# Altium integrated library Xilinx Virtex-E.IntLib: 288 symbols (part 8 of 73)
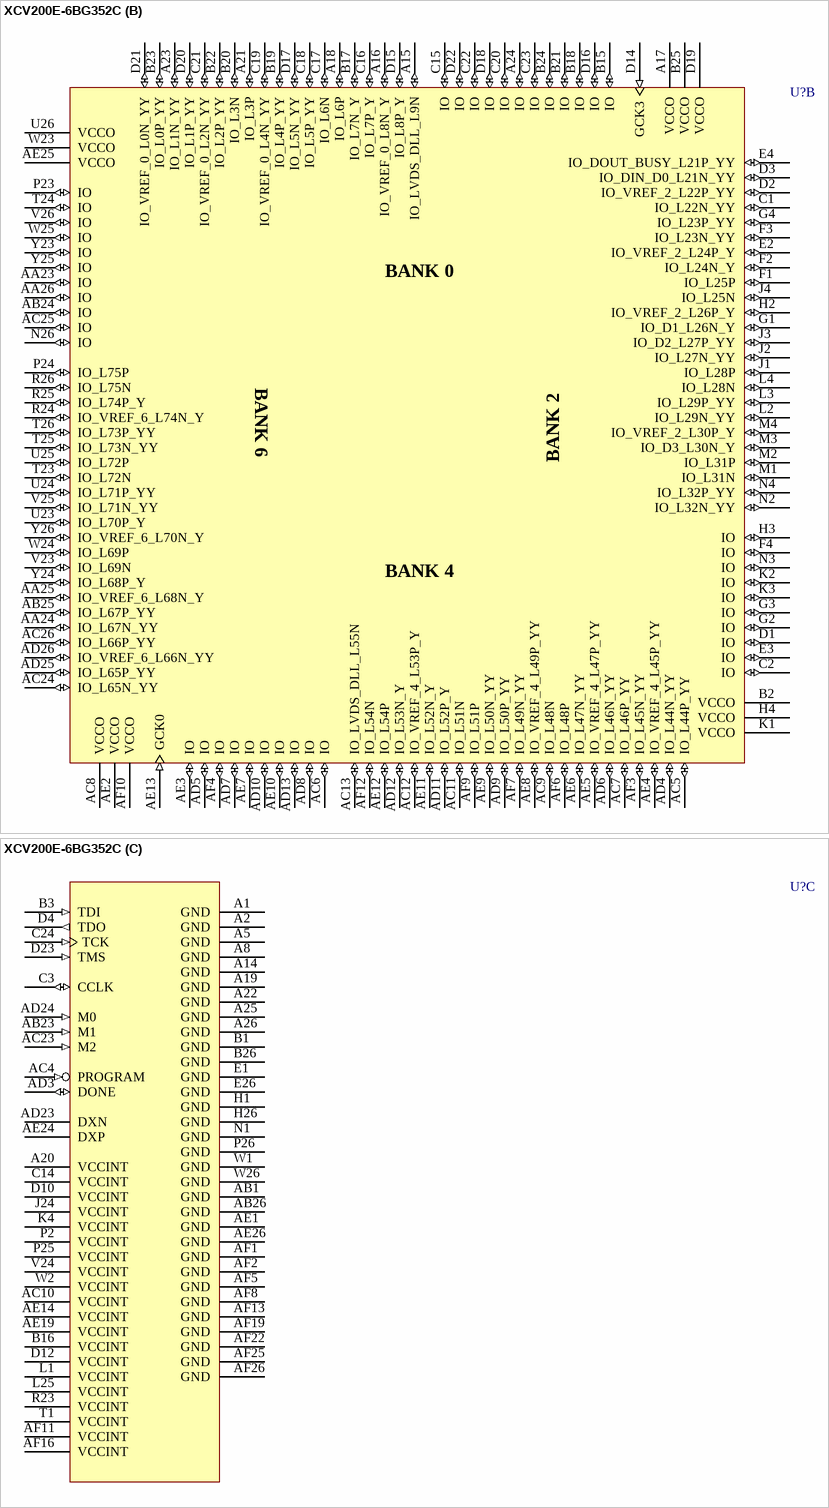
[diagram p403: symbol XCV200E-6BG352C]

## XCV200E-6BG352C
designator U?
Virtex-E 1.8V FPGA, 352-Ball BGA, Commercial Grade; PackageDocument: ver1.1, Apr-2001; Note: Solder pads are defined by the copper, i.e. non-soldermask defined (NSMD); Published: 19-Sep-2001; LatestRevisionDate: 17-Jul-2002; LatestRevisionNote: Re-released for DXP Platform.; DatasheetDocument: Mar-2003; PackageReference: BG352; Publisher: Altium Limited; Code_JEDEC: MO-192-BAR-2
footprint BG352 (352-Ball Metal Ball Grid Array (BG352))
3D model XCV200E-BG352 (352-Ball Metal Ball Grid Array (BG352))
signal-integrity model XCV200E_BG352 (Virtex-E)
part A pins: A3 IO (io), A4 IO_L18P_YY (io), A6 IO_L17N_YY (io), A7 IO_L16P_Y (io), A9 IO (io), A10 VCCO (power), A11 IO_L12N_Y (io), A12 IO_L10P (io), A13 IO_LVDS_DLL_L9P (io), AA1 IO (io), AA2 IO_L40P_Y (io), AA3 IO (io), AA4 IO_L42P_YY (io), AB2 IO_L41N_YY (io), AB3 IO (io), AB4 IO (io), AC1 IO_L41P_YY (io), AC2 IO_VREF_3_L42N_YY (io), AC3 IO_D7_L43P_YY (io), AC14 VCCO (power), AC15 IO_VREF_5_L56N_Y (io), AC16 IO_L58P (io), AC17 IO_L59N_YY (io), AC18 IO_VREF_5_L60N_YY (io), AC19 IO (io), AC20 VCCO (power), AC21 IO_L64P_YY (io), AC22 IO (io), AD1 IO (io), AD2 IO_INIT_L43N_YY (io), AD14 IO_LVDS_DLL_L55N (io), AD15 IO_L56P_Y (io), AD16 IO (io), AD17 IO_L59P_YY (io), AD18 IO_L60P_YY (io), AD19 IO (io), AD20 IO_VREF_5_L62N_YY (io), AD21 IO (io), AD22 IO (io), AE15 IO (io), AE16 IO_L57P_Y (io), AE17 IO_L57N_Y (io), AE18 IO (io), AE20 IO_L61N_Y (io), AE21 IO_L62P_YY (io), AE22 IO_L63N_YY (io), AE23 IO_VREF_5_L64N_YY (io), AF14 GCK1 (in), AF15 IO (io), AF17 VCCO (power), AF18 IO_L58N (io), AF20 IO_L61P_Y (io), AF21 IO (io), AF23 IO_L63P_YY (io), AF24 IO (io), B4 IO (io), B5 IO (io), B6 IO_VREF_1_L17P_YY (io), B7 IO (io), B8 IO_L15N_YY (io), B9 IO_L14N_YY (io), B10 IO (io), B11 IO_L12P_Y (io), B12 IO_L11N_Y (io), B13 IO (io), B14 GCK2 (in), C4 IO_CS_L20P_YY (io), C5 IO (io), C6 IO_L19N_YY (io), C7 IO_L18N_YY (io), C8 IO (io), C9 IO_VREF_1_L15P_YY (io), C10 IO_L14P_YY (io), C11 IO_L13N (io), C12 IO_VREF_1_L11P_Y (io), C13 IO_L10N (io), C25 IO (io), C26 IO (io), D5 IO_WRITE_L20N_YY (io), D6 IO_VREF_1_L19P_YY (io), D7 VCCO (power), D8 IO (io), D9 IO_L16N_Y (io), D11 IO_L13P (io), D13 VCCO (power), D24 IO (io), D25 IO_L86N_YY (io), D26 IO_VREF_7_L84P_Y (io), E23 IO (io), E24 IO_VREF_7_L86P_YY (io), E25 IO_L85N_YY (io), F23 IO (io), F24 IO_L85P_YY (io), F25 IO (io), F26 IO (io), G23 VCCO (power), G24 IO_L84N_Y (io), G25 IO_L83N_Y (io), G26 IO_VREF_7_L82P_Y (io), H23 IO (io), H24 IO_L83P_Y (io), H25 IO_L81P_YY (io), J23 IO_L82N_Y (io), J25 IO_L80P (io), J26 IO_L80N (io), K23 IO_L81N_YY (io), K24 IO (io), K25 IO_L79N_YY (io), K26 VCCO (power), L23 IO (io), L24 IO_L79P_YY (io), L26 IO_VREF_7_L78P_Y (io), M23 IO_L78N_Y (io), M24 IO_L77P (io), M25 IO_L77N (io), M26 IO (io), N23 VCCO (power), N24 IO_L76P_YY (io), N25 IO_L76N_YY (io), P1 IO (io), P3 IO (io), P4 VCCO (power), R1 IO_L33P (io), R2 IO_L33N (io), R3 IO_D4_L34P_Y (io), R4 IO_VREF_3_L34N_Y (io), T2 IO_L35P_YY (io), T3 IO (io), T4 IO_L36P (io), U1 VCCO (power), U2 IO_L35N_YY (io), U3 IO_L37P_YY (io), U4 IO_D5_L37N_YY (io), V1 IO_L36N (io), V2 IO (io), V3 IO_D6_L38P_Y (io), V4 IO_VREF_3_L38N_Y (io), W3 IO (io), W4 IO (io), Y1 IO_L39P_Y (io), Y2 IO_L39N_Y (io), Y3 IO_VREF_3_L40N_Y (io), Y4 VCCO (power)
part B pins: A15 IO_LVDS_DLL_L9N (io), A16 IO_VREF_0_L8N_Y (io), A17 VCCO (power), A18 IO_L6P (io), A21 IO_L3P (io), A23 IO_L1N_YY (io), A24 IO (io), AA23 IO (io), AA24 IO_L67N_YY (io), AA25 IO_VREF_6_L68N_Y (io), AA26 IO (io), AB24 IO (io), AB25 IO_L67P_YY (io), AC5 IO_L44P_YY (io), AC6 IO (io), AC7 IO_L46P_YY (io), AC8 VCCO (power), AC9 IO_L48N (io), AC11 IO_L51N (io), AC12 IO_VREF_4_L53P_Y (io), AC13 IO_LVDS_DLL_L55N (io), AC24 IO_L65N_YY (io), AC25 IO (io), AC26 IO_L66P_YY (io), AD4 IO_L44N_YY (io), AD5 IO (io), AD6 IO_L46N_YY (io), AD7 IO (io), AD8 IO (io), AD9 IO_L50P_YY (io), AD10 IO (io), AD11 IO_L52P_Y (io), AD12 IO_L53N_Y (io), AD13 IO (io), AD25 IO_L65P_YY (io), AD26 IO_VREF_6_L66N_YY (io), AE2 VCCO (power), AE3 IO (io), AE4 IO_VREF_4_L45P_YY (io), AE5 IO_VREF_4_L47P_YY (io), AE6 IO_L47N_YY (io), AE7 IO (io), AE8 IO_VREF_4_L49P_YY (io), AE9 IO_L50N_YY (io), AE10 IO (io), AE11 IO_L52N_Y (io), AE12 IO_L54P (io), AE13 GCK0 (in), AE25 VCCO (power), AF3 IO_L45N_YY (io), AF4 IO (io), AF6 IO_L48P (io), AF7 IO_L49N_YY (io), AF9 IO_L51P (io), AF10 VCCO (power), AF12 IO_L54N (io), B2 VCCO (power), B15 IO (io), B17 IO_L7N_Y (io), B18 IO (io), B19 IO_L4P_YY (io), B20 IO_L3N (io), B21 IO (io), B22 IO_L2P_YY (io), B23 IO_L0P_YY (io), B24 IO (io), B25 VCCO (power), C1 IO_L22N_YY (io), C2 IO (io), C15 IO (io), C16 IO_L7P_Y (io), C17 IO_L6N (io), C18 IO_L5P_YY (io), C19 IO_VREF_0_L4N_YY (io), C20 IO (io), C21 IO_VREF_0_L2N_YY (io), C22 IO (io), C23 IO (io), D1 IO (io), D2 IO_VREF_2_L22P_YY (io), D3 IO_DIN_D0_L21N_YY (io), D14 GCK3 (in), D15 IO_L8P_Y (io), D16 IO (io), D17 IO_L5N_YY (io), D18 IO (io), D19 VCCO (power), D20 IO_L1P_YY (io), D21 IO_VREF_0_L0N_YY (io), D22 IO (io), E2 IO_VREF_2_L24P_Y (io), E3 IO (io), E4 IO_DOUT_BUSY_L21P_YY (io), F1 IO_L25P (io), F2 IO_L24N_Y (io), F3 IO_L23N_YY (io), F4 IO (io), G1 IO_D1_L26N_Y (io), G2 IO (io), G3 IO (io), G4 IO_L23P_YY (io), H2 IO_VREF_2_L26P_Y (io), H3 IO (io), H4 VCCO (power), J1 IO_L28P (io), J2 IO_L27N_YY (io), J3 IO_D2_L27P_YY (io), J4 IO_L25N (io), K1 VCCO (power), K2 IO (io), K3 IO (io), L2 IO_L29N_YY (io), L3 IO_L29P_YY (io), L4 IO_L28N (io), M1 IO_L31N (io), M2 IO_L31P (io), M3 IO_D3_L30N_Y (io), M4 IO_VREF_2_L30P_Y (io), N2 IO_L32N_YY (io), N3 IO (io), N4 IO_L32P_YY (io), N26 IO (io), P23 IO (io), P24 IO_L75P (io), R24 IO_VREF_6_L74N_Y (io), R25 IO_L74P_Y (io), R26 IO_L75N (io), T23 IO_L72N (io), T24 IO (io), T25 IO_L73N_YY (io), T26 IO_L73P_YY (io), U23 IO_L70P_Y (io), U24 IO_L71P_YY (io), U25 IO_L72P (io), U26 VCCO (power), V23 IO_L69N (io), V25 IO_L71N_YY (io), V26 IO (io), W23 VCCO (power), W24 IO_L69P (io), W25 IO (io), Y23 IO (io), Y24 IO_L68P_Y (io), Y25 IO (io), Y26 IO_VREF_6_L70N_Y (io)
part C pins: A1 GND (power), A2 GND (power), A5 GND (power), A8 GND (power), A14 GND (power), A19 GND (power), A20 VCCINT (power), A22 GND (power), A25 GND (power), A26 GND (power), AB1 GND (power), AB23 M1 (in), AB26 GND (power), AC4 PROGRAM (in), AC10 VCCINT (power), AC23 M2 (in), AD3 DONE (io), AD23 DXN, AD24 M0 (in), AE1 GND (power), AE14 VCCINT (power), AE19 VCCINT (power), AE24 DXP, AE26 GND (power), AF1 GND (power), AF2 GND (power), AF5 GND (power), AF8 GND (power), AF11 VCCINT (power), AF13 GND (power), AF16 VCCINT (power), AF19 GND (power), AF22 GND (power), AF25 GND (power), AF26 GND (power), B1 GND (power), B3 TDI (in), B16 VCCINT (power), B26 GND (power), C3 CCLK (io), C14 VCCINT (power), C24 TCK (in), D4 TDO (out), D10 VCCINT (power), D12 VCCINT (power), D23 TMS (in), E1 GND (power), E26 GND (power), H1 GND (power), H26 GND (power), J24 VCCINT (power), K4 VCCINT (power), L1 VCCINT (power), L25 VCCINT (power), N1 GND (power), P2 VCCINT (power), P25 VCCINT (power), P26 GND (power), R23 VCCINT (power), T1 VCCINT (power), V24 VCCINT (power), W1 GND (power), W2 VCCINT (power), W26 GND (power)
part A text: BANK 1; BANK 7; BANK 3; BANK 5
part B text: BANK 0; BANK 6; BANK 2; BANK 4

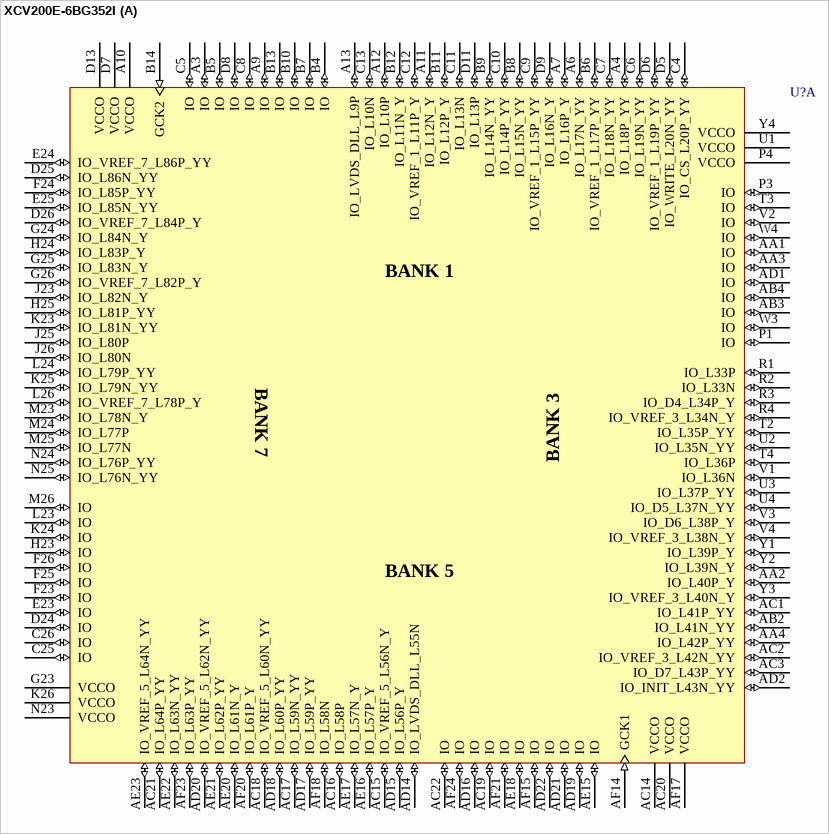
[diagram p35: symbol XCV200E-6BG352I]

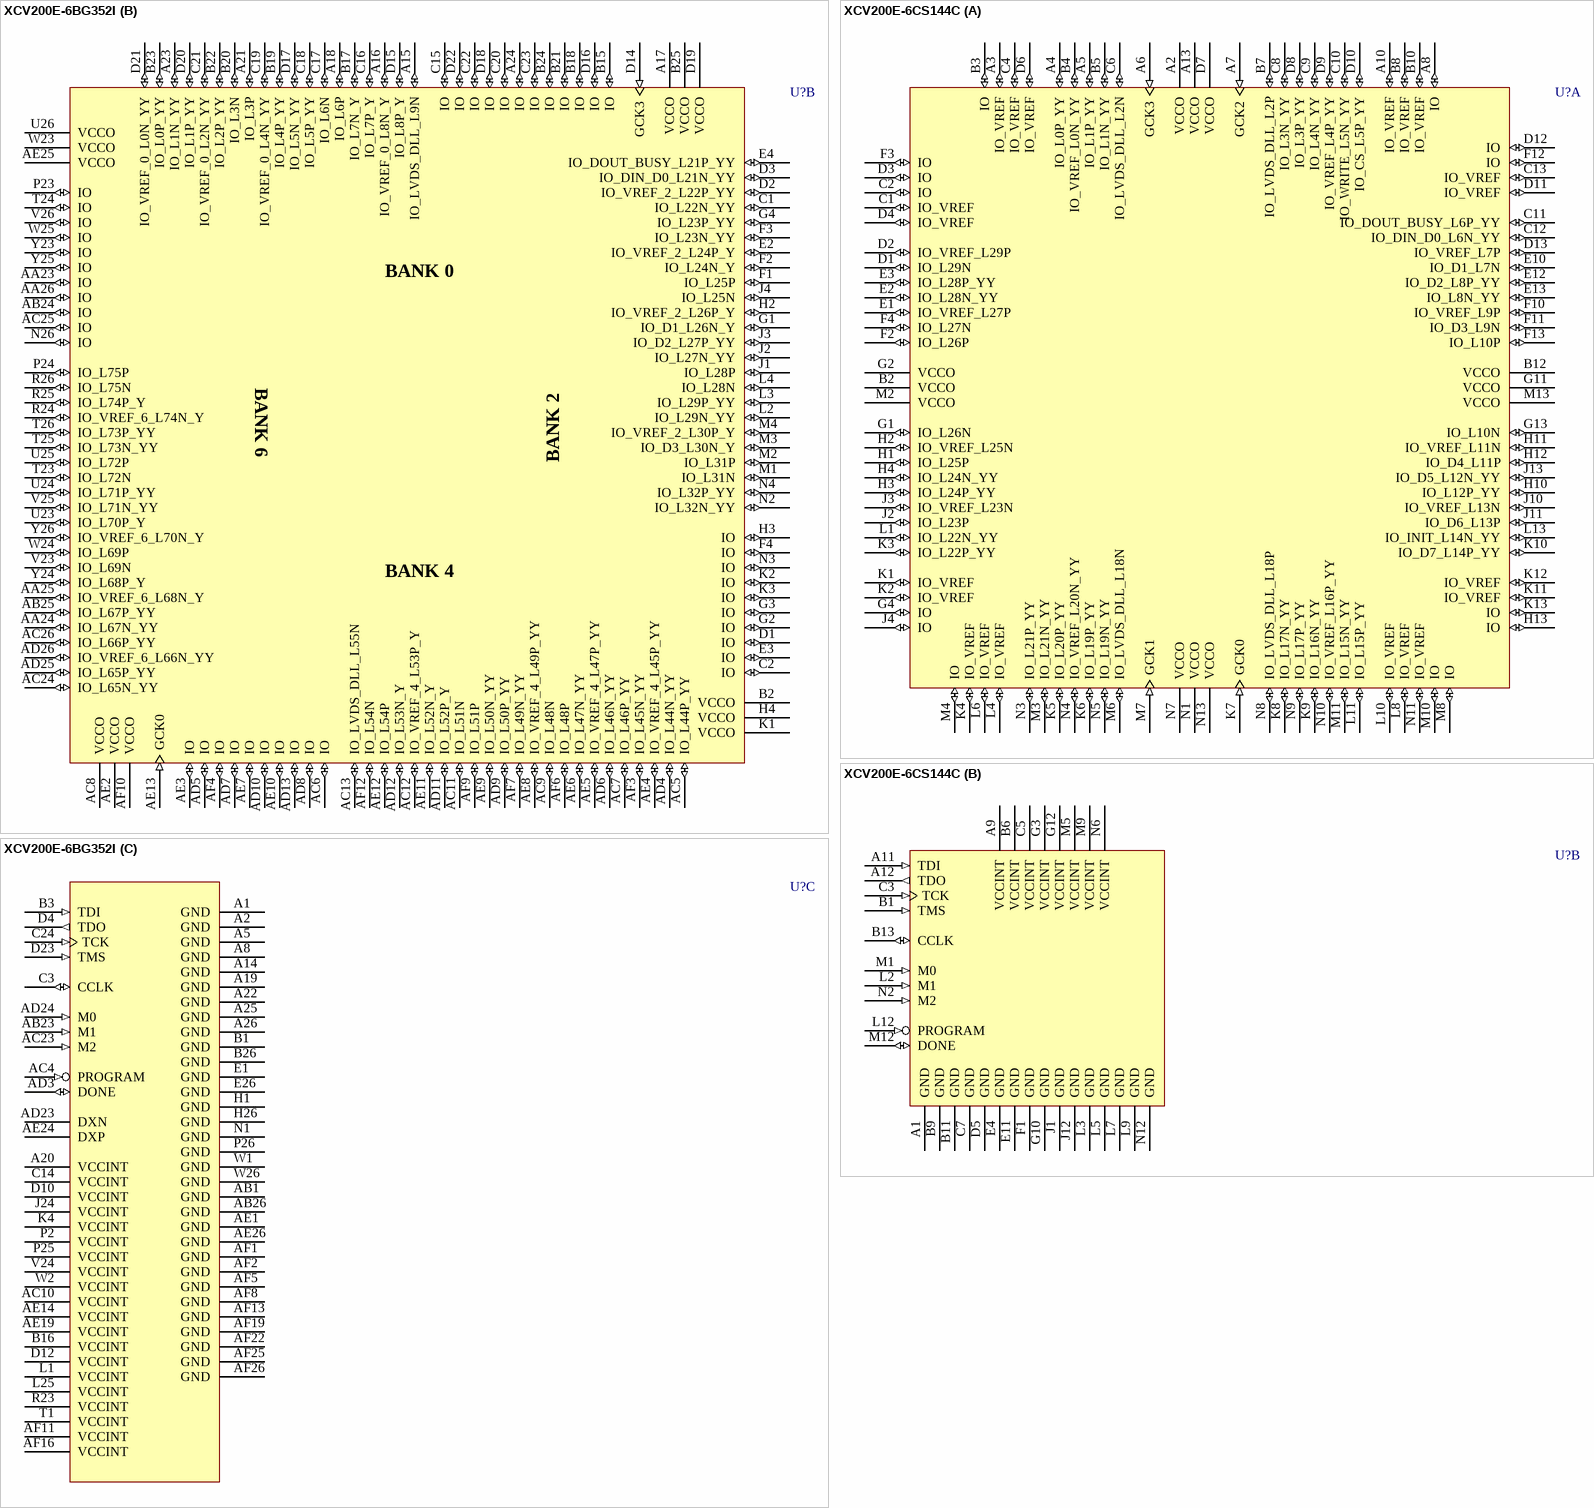
[diagram p36: symbols XCV200E-6BG352I to XCV200E-6CS144C]

## XCV200E-6BG352I
designator U?
Virtex-E 1.8V FPGA, 352-Ball BGA, Industrial Grade; PackageDocument: ver1.1, Apr-2001; Note: Solder pads are defined by the copper, i.e. non-soldermask defined (NSMD); Published: 19-Sep-2001; LatestRevisionDate: 17-Jul-2002; LatestRevisionNote: Re-released for DXP Platform.; DatasheetDocument: Mar-2003; PackageReference: BG352; Publisher: Altium Limited; Code_JEDEC: MO-192-BAR-2
footprint BG352 (352-Ball Metal Ball Grid Array (BG352))
3D model XCV200E-BG352 (352-Ball Metal Ball Grid Array (BG352))
signal-integrity model XCV200E_BG352 (Virtex-E)
part A pins: A3 IO (io), A4 IO_L18P_YY (io), A6 IO_L17N_YY (io), A7 IO_L16P_Y (io), A9 IO (io), A10 VCCO (power), A11 IO_L12N_Y (io), A12 IO_L10P (io), A13 IO_LVDS_DLL_L9P (io), AA1 IO (io), AA2 IO_L40P_Y (io), AA3 IO (io), AA4 IO_L42P_YY (io), AB2 IO_L41N_YY (io), AB3 IO (io), AB4 IO (io), AC1 IO_L41P_YY (io), AC2 IO_VREF_3_L42N_YY (io), AC3 IO_D7_L43P_YY (io), AC14 VCCO (power), AC15 IO_VREF_5_L56N_Y (io), AC16 IO_L58P (io), AC17 IO_L59N_YY (io), AC18 IO_VREF_5_L60N_YY (io), AC19 IO (io), AC20 VCCO (power), AC21 IO_L64P_YY (io), AC22 IO (io), AD1 IO (io), AD2 IO_INIT_L43N_YY (io), AD14 IO_LVDS_DLL_L55N (io), AD15 IO_L56P_Y (io), AD16 IO (io), AD17 IO_L59P_YY (io), AD18 IO_L60P_YY (io), AD19 IO (io), AD20 IO_VREF_5_L62N_YY (io), AD21 IO (io), AD22 IO (io), AE15 IO (io), AE16 IO_L57P_Y (io), AE17 IO_L57N_Y (io), AE18 IO (io), AE20 IO_L61N_Y (io), AE21 IO_L62P_YY (io), AE22 IO_L63N_YY (io), AE23 IO_VREF_5_L64N_YY (io), AF14 GCK1 (in), AF15 IO (io), AF17 VCCO (power), AF18 IO_L58N (io), AF20 IO_L61P_Y (io), AF21 IO (io), AF23 IO_L63P_YY (io), AF24 IO (io), B4 IO (io), B5 IO (io), B6 IO_VREF_1_L17P_YY (io), B7 IO (io), B8 IO_L15N_YY (io), B9 IO_L14N_YY (io), B10 IO (io), B11 IO_L12P_Y (io), B12 IO_L11N_Y (io), B13 IO (io), B14 GCK2 (in), C4 IO_CS_L20P_YY (io), C5 IO (io), C6 IO_L19N_YY (io), C7 IO_L18N_YY (io), C8 IO (io), C9 IO_VREF_1_L15P_YY (io), C10 IO_L14P_YY (io), C11 IO_L13N (io), C12 IO_VREF_1_L11P_Y (io), C13 IO_L10N (io), C25 IO (io), C26 IO (io), D5 IO_WRITE_L20N_YY (io), D6 IO_VREF_1_L19P_YY (io), D7 VCCO (power), D8 IO (io), D9 IO_L16N_Y (io), D11 IO_L13P (io), D13 VCCO (power), D24 IO (io), D25 IO_L86N_YY (io), D26 IO_VREF_7_L84P_Y (io), E23 IO (io), E24 IO_VREF_7_L86P_YY (io), E25 IO_L85N_YY (io), F23 IO (io), F24 IO_L85P_YY (io), F25 IO (io), F26 IO (io), G23 VCCO (power), G24 IO_L84N_Y (io), G25 IO_L83N_Y (io), G26 IO_VREF_7_L82P_Y (io), H23 IO (io), H24 IO_L83P_Y (io), H25 IO_L81P_YY (io), J23 IO_L82N_Y (io), J25 IO_L80P (io), J26 IO_L80N (io), K23 IO_L81N_YY (io), K24 IO (io), K25 IO_L79N_YY (io), K26 VCCO (power), L23 IO (io), L24 IO_L79P_YY (io), L26 IO_VREF_7_L78P_Y (io), M23 IO_L78N_Y (io), M24 IO_L77P (io), M25 IO_L77N (io), M26 IO (io), N23 VCCO (power), N24 IO_L76P_YY (io), N25 IO_L76N_YY (io), P1 IO (io), P3 IO (io), P4 VCCO (power), R1 IO_L33P (io), R2 IO_L33N (io), R3 IO_D4_L34P_Y (io), R4 IO_VREF_3_L34N_Y (io), T2 IO_L35P_YY (io), T3 IO (io), T4 IO_L36P (io), U1 VCCO (power), U2 IO_L35N_YY (io), U3 IO_L37P_YY (io), U4 IO_D5_L37N_YY (io), V1 IO_L36N (io), V2 IO (io), V3 IO_D6_L38P_Y (io), V4 IO_VREF_3_L38N_Y (io), W3 IO (io), W4 IO (io), Y1 IO_L39P_Y (io), Y2 IO_L39N_Y (io), Y3 IO_VREF_3_L40N_Y (io), Y4 VCCO (power)
part B pins: A15 IO_LVDS_DLL_L9N (io), A16 IO_VREF_0_L8N_Y (io), A17 VCCO (power), A18 IO_L6P (io), A21 IO_L3P (io), A23 IO_L1N_YY (io), A24 IO (io), AA23 IO (io), AA24 IO_L67N_YY (io), AA25 IO_VREF_6_L68N_Y (io), AA26 IO (io), AB24 IO (io), AB25 IO_L67P_YY (io), AC5 IO_L44P_YY (io), AC6 IO (io), AC7 IO_L46P_YY (io), AC8 VCCO (power), AC9 IO_L48N (io), AC11 IO_L51N (io), AC12 IO_VREF_4_L53P_Y (io), AC13 IO_LVDS_DLL_L55N (io), AC24 IO_L65N_YY (io), AC25 IO (io), AC26 IO_L66P_YY (io), AD4 IO_L44N_YY (io), AD5 IO (io), AD6 IO_L46N_YY (io), AD7 IO (io), AD8 IO (io), AD9 IO_L50P_YY (io), AD10 IO (io), AD11 IO_L52P_Y (io), AD12 IO_L53N_Y (io), AD13 IO (io), AD25 IO_L65P_YY (io), AD26 IO_VREF_6_L66N_YY (io), AE2 VCCO (power), AE3 IO (io), AE4 IO_VREF_4_L45P_YY (io), AE5 IO_VREF_4_L47P_YY (io), AE6 IO_L47N_YY (io), AE7 IO (io), AE8 IO_VREF_4_L49P_YY (io), AE9 IO_L50N_YY (io), AE10 IO (io), AE11 IO_L52N_Y (io), AE12 IO_L54P (io), AE13 GCK0 (in), AE25 VCCO (power), AF3 IO_L45N_YY (io), AF4 IO (io), AF6 IO_L48P (io), AF7 IO_L49N_YY (io), AF9 IO_L51P (io), AF10 VCCO (power), AF12 IO_L54N (io), B2 VCCO (power), B15 IO (io), B17 IO_L7N_Y (io), B18 IO (io), B19 IO_L4P_YY (io), B20 IO_L3N (io), B21 IO (io), B22 IO_L2P_YY (io), B23 IO_L0P_YY (io), B24 IO (io), B25 VCCO (power), C1 IO_L22N_YY (io), C2 IO (io), C15 IO (io), C16 IO_L7P_Y (io), C17 IO_L6N (io), C18 IO_L5P_YY (io), C19 IO_VREF_0_L4N_YY (io), C20 IO (io), C21 IO_VREF_0_L2N_YY (io), C22 IO (io), C23 IO (io), D1 IO (io), D2 IO_VREF_2_L22P_YY (io), D3 IO_DIN_D0_L21N_YY (io), D14 GCK3 (in), D15 IO_L8P_Y (io), D16 IO (io), D17 IO_L5N_YY (io), D18 IO (io), D19 VCCO (power), D20 IO_L1P_YY (io), D21 IO_VREF_0_L0N_YY (io), D22 IO (io), E2 IO_VREF_2_L24P_Y (io), E3 IO (io), E4 IO_DOUT_BUSY_L21P_YY (io), F1 IO_L25P (io), F2 IO_L24N_Y (io), F3 IO_L23N_YY (io), F4 IO (io), G1 IO_D1_L26N_Y (io), G2 IO (io), G3 IO (io), G4 IO_L23P_YY (io), H2 IO_VREF_2_L26P_Y (io), H3 IO (io), H4 VCCO (power), J1 IO_L28P (io), J2 IO_L27N_YY (io), J3 IO_D2_L27P_YY (io), J4 IO_L25N (io), K1 VCCO (power), K2 IO (io), K3 IO (io), L2 IO_L29N_YY (io), L3 IO_L29P_YY (io), L4 IO_L28N (io), M1 IO_L31N (io), M2 IO_L31P (io), M3 IO_D3_L30N_Y (io), M4 IO_VREF_2_L30P_Y (io), N2 IO_L32N_YY (io), N3 IO (io), N4 IO_L32P_YY (io), N26 IO (io), P23 IO (io), P24 IO_L75P (io), R24 IO_VREF_6_L74N_Y (io), R25 IO_L74P_Y (io), R26 IO_L75N (io), T23 IO_L72N (io), T24 IO (io), T25 IO_L73N_YY (io), T26 IO_L73P_YY (io), U23 IO_L70P_Y (io), U24 IO_L71P_YY (io), U25 IO_L72P (io), U26 VCCO (power), V23 IO_L69N (io), V25 IO_L71N_YY (io), V26 IO (io), W23 VCCO (power), W24 IO_L69P (io), W25 IO (io), Y23 IO (io), Y24 IO_L68P_Y (io), Y25 IO (io), Y26 IO_VREF_6_L70N_Y (io)
part C pins: A1 GND (power), A2 GND (power), A5 GND (power), A8 GND (power), A14 GND (power), A19 GND (power), A20 VCCINT (power), A22 GND (power), A25 GND (power), A26 GND (power), AB1 GND (power), AB23 M1 (in), AB26 GND (power), AC4 PROGRAM (in), AC10 VCCINT (power), AC23 M2 (in), AD3 DONE (io), AD23 DXN, AD24 M0 (in), AE1 GND (power), AE14 VCCINT (power), AE19 VCCINT (power), AE24 DXP, AE26 GND (power), AF1 GND (power), AF2 GND (power), AF5 GND (power), AF8 GND (power), AF11 VCCINT (power), AF13 GND (power), AF16 VCCINT (power), AF19 GND (power), AF22 GND (power), AF25 GND (power), AF26 GND (power), B1 GND (power), B3 TDI (in), B16 VCCINT (power), B26 GND (power), C3 CCLK (io), C14 VCCINT (power), C24 TCK (in), D4 TDO (out), D10 VCCINT (power), D12 VCCINT (power), D23 TMS (in), E1 GND (power), E26 GND (power), H1 GND (power), H26 GND (power), J24 VCCINT (power), K4 VCCINT (power), L1 VCCINT (power), L25 VCCINT (power), N1 GND (power), P2 VCCINT (power), P25 VCCINT (power), P26 GND (power), R23 VCCINT (power), T1 VCCINT (power), V24 VCCINT (power), W1 GND (power), W2 VCCINT (power), W26 GND (power)
part A text: BANK 1; BANK 7; BANK 3; BANK 5
part B text: BANK 0; BANK 6; BANK 2; BANK 4

## XCV200E-6CS144C
designator U?
Virtex-E 1.8V FPGA, 144-Ball CSBGA, Commercial Grade; PackageDocument: ver1.0, Jun-2000; Note: Solder pads are defined by the copper, i.e. non-soldermask defined (NSMD); Published: 19-Sep-2001; LatestRevisionDate: 17-Sep-2003; LatestRevisionNote: PCB Footprint dimensions updated; DatasheetDocument: Mar-2003; PackageReference: CS144; Publisher: Altium Limited
footprint CS144 (144-Ball Chip Scale Ball Grid Array (CS144))
3D model XCV200E-CS144 (144-Ball Chip Scale Ball Grid Array (CS144))
signal-integrity model XCV200E_CS144 (Virtex-E)
part A pins: A2 VCCO (power), A3 IO_VREF (io), A4 IO_L0P_YY (io), A5 IO_L1P_YY (io), A6 GCK3 (in), A7 GCK2 (in), A8 IO (io), A10 IO_VREF (io), A13 VCCO (power), B2 VCCO (power), B3 IO (io), B4 IO_VREF_L0N_YY (io), B5 IO_L1N_YY (io), B7 IO_LVDS_DLL_L2P (io), B8 IO_VREF (io), B10 IO_VREF (io), B12 VCCO (power), C1 IO_VREF (io), C2 IO (io), C4 IO_VREF (io), C6 IO_LVDS_DLL_L2N (io), C8 IO_L3N_YY (io), C9 IO_L4N_YY (io), C10 IO_WRITE_L5N_YY (io), C11 IO_DOUT_BUSY_L6P_YY (io), C12 IO_DIN_D0_L6N_YY (io), C13 IO_VREF (io), D1 IO_L29N (io), D2 IO_VREF_L29P (io), D3 IO (io), D4 IO_VREF (io), D6 IO_VREF (io), D7 VCCO (power), D8 IO_L3P_YY (io), D9 IO_VREF_L4P_YY (io), D10 IO_CS_L5P_YY (io), D11 IO_VREF (io), D12 IO (io), D13 IO_VREF_L7P (io), E1 IO_VREF_L27P (io), E2 IO_L28N_YY (io), E3 IO_L28P_YY (io), E10 IO_D1_L7N (io), E12 IO_D2_L8P_YY (io), E13 IO_L8N_YY (io), F2 IO_L26P (io), F3 IO (io), F4 IO_L27N (io), F10 IO_VREF_L9P (io), F11 IO_D3_L9N (io), F12 IO (io), F13 IO_L10P (io), G1 IO_L26N (io), G2 VCCO (power), G4 IO (io), G11 VCCO (power), G13 IO_L10N (io), H1 IO_L25P (io), H2 IO_VREF_L25N (io), H3 IO_L24P_YY (io), H4 IO_L24N_YY (io), H10 IO_L12P_YY (io), H11 IO_VREF_L11N (io), H12 IO_D4_L11P (io), H13 IO (io), J2 IO_L23P (io), J3 IO_VREF_L23N (io), J4 IO (io), J10 IO_VREF_L13N (io), J11 IO_D6_L13P (io), J13 IO_D5_L12N_YY (io), K1 IO_VREF (io), K2 IO_VREF (io), K3 IO_L22P_YY (io), K4 IO_VREF (io), K5 IO_L20P_YY (io), K6 IO_L19P_YY (io), K7 GCK0 (in), K8 IO_L17N_YY (io), K9 IO_L16N_YY (io), K10 IO_D7_L14P_YY (io), K11 IO_VREF (io), K12 IO_VREF (io), K13 IO (io), L1 IO_L22N_YY (io), L4 IO_VREF (io), L6 IO_VREF (io), L8 IO_VREF (io), L10 IO_VREF (io), L11 IO_L15P_YY (io), L13 IO_INIT_L14N_YY (io), M2 VCCO (power), M3 IO_L21N_YY (io), M4 IO (io), M6 IO_LVDS_DLL_L18N (io), M7 GCK1 (in), M8 IO (io), M10 IO (io), M11 IO_L15N_YY (io), M13 VCCO (power), N1 VCCO (power), N3 IO_L21P_YY (io), N4 IO_VREF_L20N_YY (io), N5 IO_L19N_YY (io), N7 VCCO (power), N8 IO_LVDS_DLL_L18P (io), N9 IO_L17P_YY (io), N10 IO_VREF_L16P_YY (io), N11 IO_VREF (io), N13 VCCO (power)
part B pins: A1 GND (power), A9 VCCINT (power), A11 TDI (in), A12 TDO (out), B1 TMS (in), B6 VCCINT (power), B9 GND (power), B11 GND (power), B13 CCLK (io), C3 TCK (in), C5 VCCINT (power), C7 GND (power), D5 GND (power), E4 GND (power), E11 GND (power), F1 GND (power), G3 VCCINT (power), G10 GND (power), G12 VCCINT (power), J1 GND (power), J12 GND (power), L2 M1 (in), L3 GND (power), L5 GND (power), L7 GND (power), L9 GND (power), L12 PROGRAM (in), M1 M0 (in), M5 VCCINT (power), M9 VCCINT (power), M12 DONE (io), N2 M2 (in), N6 VCCINT (power), N12 GND (power)

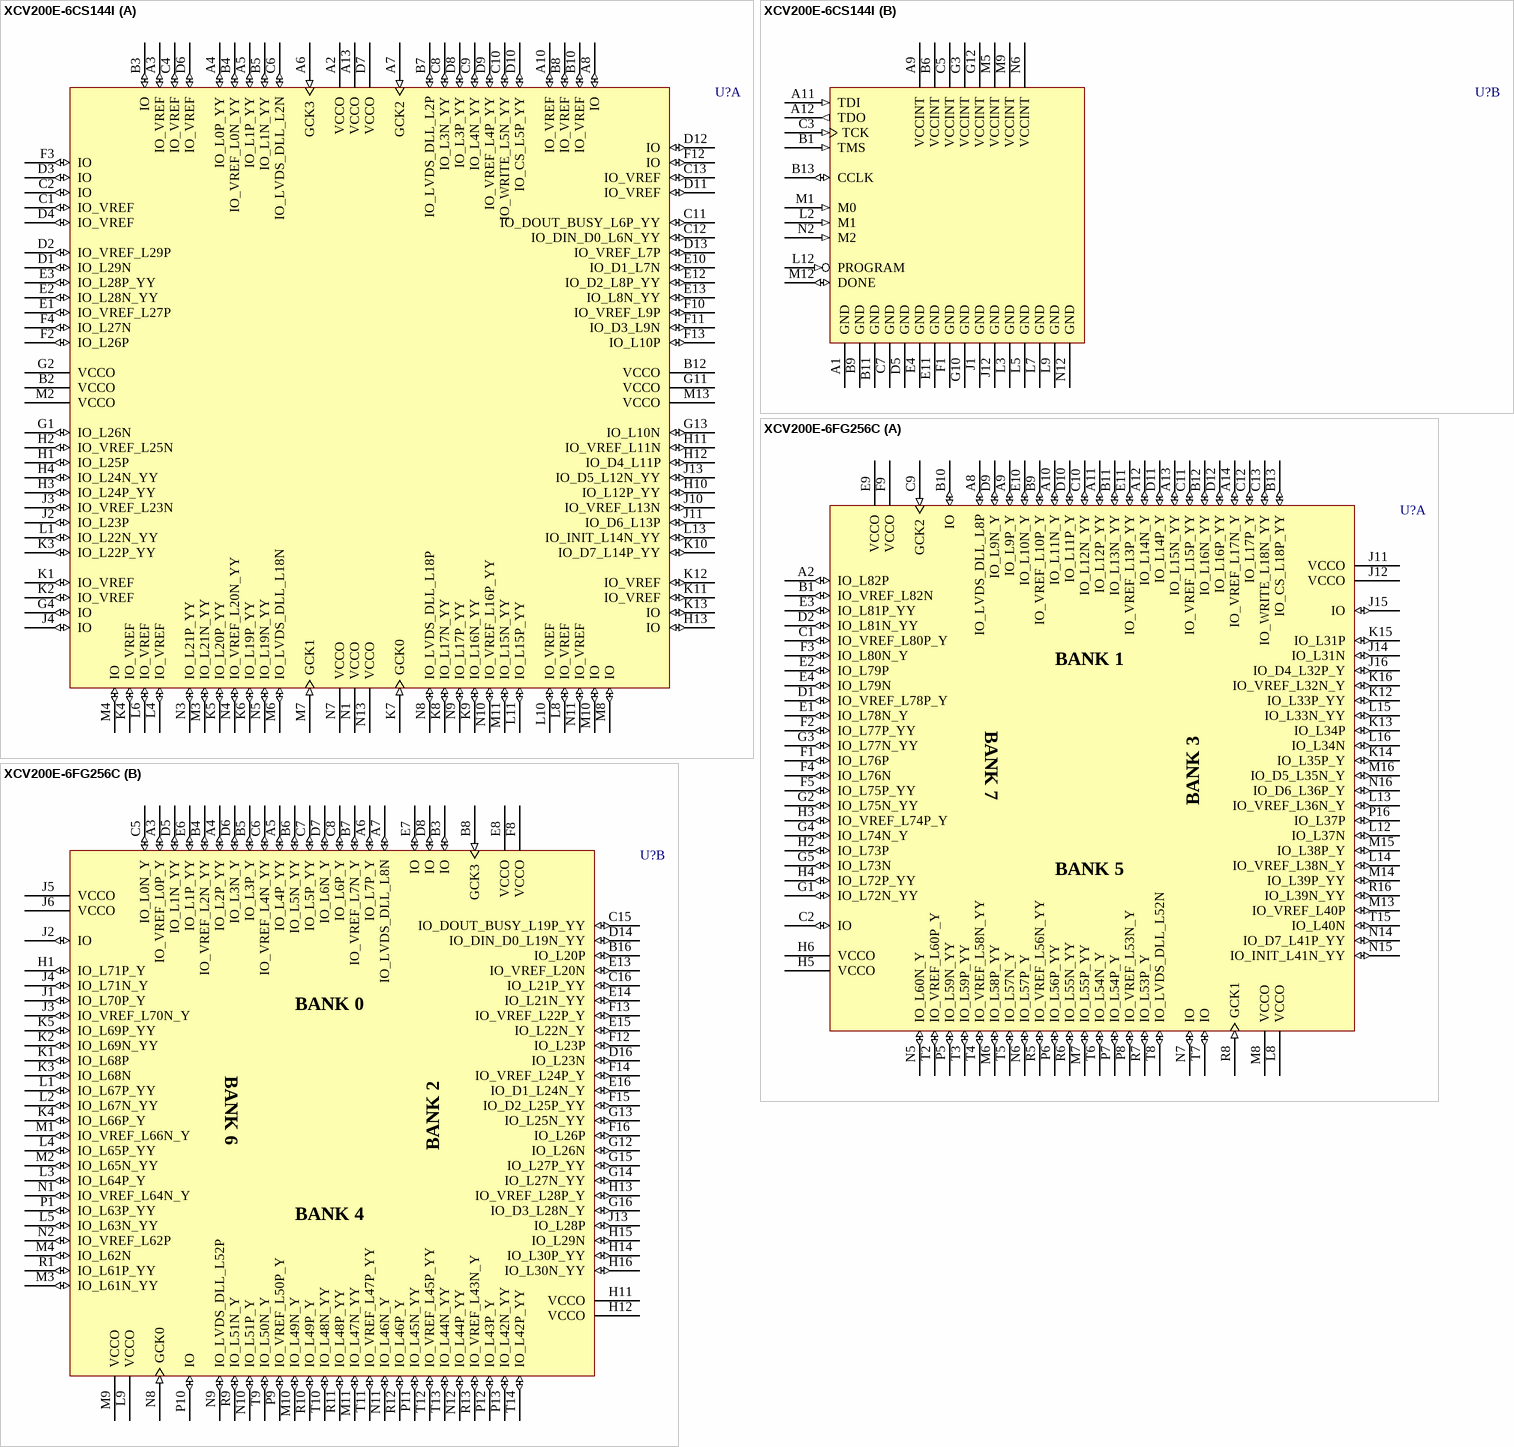
[diagram p37: symbols XCV200E-6CS144I to XCV200E-6FG256C]

## XCV200E-6CS144I
designator U?
Virtex-E 1.8V FPGA, 144-Ball CSBGA, Industrial Grade; PackageDocument: ver1.0, Jun-2000; Note: Solder pads are defined by the copper, i.e. non-soldermask defined (NSMD); Published: 19-Sep-2001; LatestRevisionDate: 17-Sep-2003; LatestRevisionNote: PCB Footprint dimensions updated; DatasheetDocument: Mar-2003; PackageReference: CS144; Publisher: Altium Limited
footprint CS144 (144-Ball Chip Scale Ball Grid Array (CS144))
3D model XCV200E-CS144 (144-Ball Chip Scale Ball Grid Array (CS144))
signal-integrity model XCV200E_CS144 (Virtex-E)
part A pins: A2 VCCO (power), A3 IO_VREF (io), A4 IO_L0P_YY (io), A5 IO_L1P_YY (io), A6 GCK3 (in), A7 GCK2 (in), A8 IO (io), A10 IO_VREF (io), A13 VCCO (power), B2 VCCO (power), B3 IO (io), B4 IO_VREF_L0N_YY (io), B5 IO_L1N_YY (io), B7 IO_LVDS_DLL_L2P (io), B8 IO_VREF (io), B10 IO_VREF (io), B12 VCCO (power), C1 IO_VREF (io), C2 IO (io), C4 IO_VREF (io), C6 IO_LVDS_DLL_L2N (io), C8 IO_L3N_YY (io), C9 IO_L4N_YY (io), C10 IO_WRITE_L5N_YY (io), C11 IO_DOUT_BUSY_L6P_YY (io), C12 IO_DIN_D0_L6N_YY (io), C13 IO_VREF (io), D1 IO_L29N (io), D2 IO_VREF_L29P (io), D3 IO (io), D4 IO_VREF (io), D6 IO_VREF (io), D7 VCCO (power), D8 IO_L3P_YY (io), D9 IO_VREF_L4P_YY (io), D10 IO_CS_L5P_YY (io), D11 IO_VREF (io), D12 IO (io), D13 IO_VREF_L7P (io), E1 IO_VREF_L27P (io), E2 IO_L28N_YY (io), E3 IO_L28P_YY (io), E10 IO_D1_L7N (io), E12 IO_D2_L8P_YY (io), E13 IO_L8N_YY (io), F2 IO_L26P (io), F3 IO (io), F4 IO_L27N (io), F10 IO_VREF_L9P (io), F11 IO_D3_L9N (io), F12 IO (io), F13 IO_L10P (io), G1 IO_L26N (io), G2 VCCO (power), G4 IO (io), G11 VCCO (power), G13 IO_L10N (io), H1 IO_L25P (io), H2 IO_VREF_L25N (io), H3 IO_L24P_YY (io), H4 IO_L24N_YY (io), H10 IO_L12P_YY (io), H11 IO_VREF_L11N (io), H12 IO_D4_L11P (io), H13 IO (io), J2 IO_L23P (io), J3 IO_VREF_L23N (io), J4 IO (io), J10 IO_VREF_L13N (io), J11 IO_D6_L13P (io), J13 IO_D5_L12N_YY (io), K1 IO_VREF (io), K2 IO_VREF (io), K3 IO_L22P_YY (io), K4 IO_VREF (io), K5 IO_L20P_YY (io), K6 IO_L19P_YY (io), K7 GCK0 (in), K8 IO_L17N_YY (io), K9 IO_L16N_YY (io), K10 IO_D7_L14P_YY (io), K11 IO_VREF (io), K12 IO_VREF (io), K13 IO (io), L1 IO_L22N_YY (io), L4 IO_VREF (io), L6 IO_VREF (io), L8 IO_VREF (io), L10 IO_VREF (io), L11 IO_L15P_YY (io), L13 IO_INIT_L14N_YY (io), M2 VCCO (power), M3 IO_L21N_YY (io), M4 IO (io), M6 IO_LVDS_DLL_L18N (io), M7 GCK1 (in), M8 IO (io), M10 IO (io), M11 IO_L15N_YY (io), M13 VCCO (power), N1 VCCO (power), N3 IO_L21P_YY (io), N4 IO_VREF_L20N_YY (io), N5 IO_L19N_YY (io), N7 VCCO (power), N8 IO_LVDS_DLL_L18P (io), N9 IO_L17P_YY (io), N10 IO_VREF_L16P_YY (io), N11 IO_VREF (io), N13 VCCO (power)
part B pins: A1 GND (power), A9 VCCINT (power), A11 TDI (in), A12 TDO (out), B1 TMS (in), B6 VCCINT (power), B9 GND (power), B11 GND (power), B13 CCLK (io), C3 TCK (in), C5 VCCINT (power), C7 GND (power), D5 GND (power), E4 GND (power), E11 GND (power), F1 GND (power), G3 VCCINT (power), G10 GND (power), G12 VCCINT (power), J1 GND (power), J12 GND (power), L2 M1 (in), L3 GND (power), L5 GND (power), L7 GND (power), L9 GND (power), L12 PROGRAM (in), M1 M0 (in), M5 VCCINT (power), M9 VCCINT (power), M12 DONE (io), N2 M2 (in), N6 VCCINT (power), N12 GND (power)

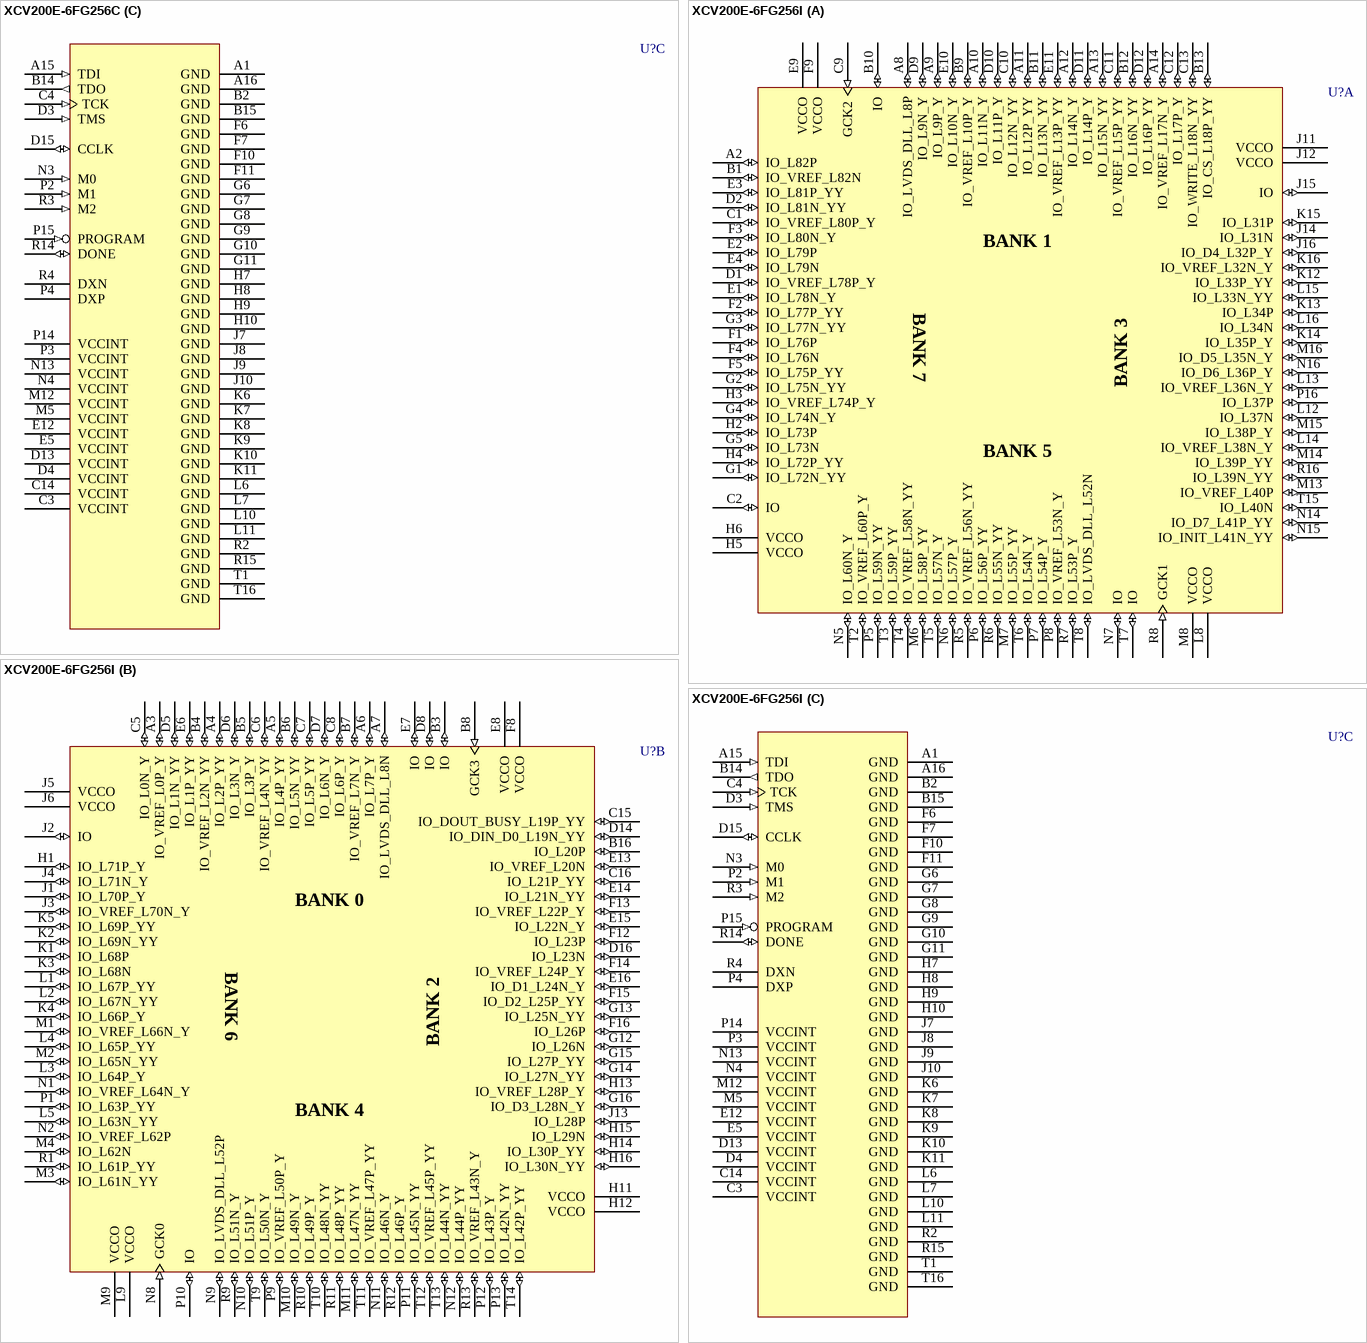
[diagram p38: symbols XCV200E-6FG256C to XCV200E-6FG256I]

## XCV200E-6FG256C
designator U?
Virtex-E 1.8V FPGA, 256-Ball FBGA, Commercial Grade; PackageDocument: ver1.1, Apr-2001; Note: Solder pads are defined by the copper, i.e. non-soldermask defined (NSMD); Published: 19-Sep-2001; LatestRevisionDate: 17-Jul-2002; LatestRevisionNote: Re-released for DXP Platform.; DatasheetDocument: Mar-2003; PackageReference: FG256; Publisher: Altium Limited; Code_JEDEC: MO-151-AAF-1; Code_IPC: PBGA 17X17 FE256
footprint FG256 (256-Ball Fine Pitch Ball Grid Array (FG256))
3D model XCV200E-FG256 (256-Ball Fine Pitch Ball Grid Array (FG256))
signal-integrity model XCV200E_FG256 (Virtex-E)
part A pins: A2 IO_L82P (io), A8 IO_LVDS_DLL_L8P (io), A9 IO_L9P_Y (io), A10 IO_L11N_Y (io), A11 IO_L12P_YY (io), A12 IO_L14N_Y (io), A13 IO_L15N_YY (io), A14 IO_VREF_L17N_Y (io), B1 IO_VREF_L82N (io), B9 IO_VREF_L10P_Y (io), B10 IO (io), B11 IO_L13N_YY (io), B12 IO_L16N_YY (io), B13 IO_CS_L18P_YY (io), C1 IO_VREF_L80P_Y (io), C2 IO (io), C9 GCK2 (in), C10 IO_L12N_YY (io), C11 IO_VREF_L15P_YY (io), C12 IO_L17P_Y (io), C13 IO_WRITE_L18N_YY (io), D1 IO_VREF_L78P_Y (io), D2 IO_L81N_YY (io), D9 IO_L9N_Y (io), D10 IO_L11P_Y (io), D11 IO_L14P_Y (io), D12 IO_L16P_YY (io), E1 IO_L78N_Y (io), E2 IO_L79P (io), E3 IO_L81P_YY (io), E4 IO_L79N (io), E9 VCCO (power), E10 IO_L10N_Y (io), E11 IO_VREF_L13P_YY (io), F1 IO_L76P (io), F2 IO_L77P_YY (io), F3 IO_L80N_Y (io), F4 IO_L76N (io), F5 IO_L75P_YY (io), F9 VCCO (power), G1 IO_L72N_YY (io), G2 IO_L75N_YY (io), G3 IO_L77N_YY (io), G4 IO_L74N_Y (io), G5 IO_L73N (io), H2 IO_L73P (io), H3 IO_VREF_L74P_Y (io), H4 IO_L72P_YY (io), H5 VCCO (power), H6 VCCO (power), J11 VCCO (power), J12 VCCO (power), J14 IO_L31N (io), J15 IO (io), J16 IO_D4_L32P_Y (io), K12 IO_L33P_YY (io), K13 IO_L34P (io), K14 IO_L35P_Y (io), K15 IO_L31P (io), K16 IO_VREF_L32N_Y (io), L8 VCCO (power), L12 IO_L37N (io), L13 IO_VREF_L36N_Y (io), L14 IO_VREF_L38N_Y (io), L15 IO_L33N_YY (io), L16 IO_L34N (io), M6 IO_L58P_YY (io), M7 IO_L55P_YY (io), M8 VCCO (power), M13 IO_VREF_L40P (io), M14 IO_L39P_YY (io), M15 IO_L38P_Y (io), M16 IO_D5_L35N_Y (io), N5 IO_L60N_Y (io), N6 IO_L57P_Y (io), N7 IO (io), N14 IO_D7_L41P_YY (io), N15 IO_INIT_L41N_YY (io), N16 IO_D6_L36P_Y (io), P5 IO_L59N_YY (io), P6 IO_L56P_YY (io), P7 IO_L54P_Y (io), P8 IO_VREF_L53N_Y (io), P16 IO_L37P (io), R5 IO_VREF_L56N_YY (io), R6 IO_L55N_YY (io), R7 IO_L53P_Y (io), R8 GCK1 (in), R16 IO_L39N_YY (io), T2 IO_VREF_L60P_Y (io), T3 IO_L59P_YY (io), T4 IO_VREF_L58N_YY (io), T5 IO_L57N_Y (io), T6 IO_L54N_Y (io), T7 IO (io), T8 IO_LVDS_DLL_L52N (io), T15 IO_L40N (io)
part B pins: A3 IO_VREF_L0P_Y (io), A4 IO_L2P_YY (io), A5 IO_L4P_YY (io), A6 IO_L7P_Y (io), A7 IO_LVDS_DLL_L8N (io), B3 IO (io), B4 IO_VREF_L2N_YY (io), B5 IO_L3P_Y (io), B6 IO_L5N_YY (io), B7 IO_VREF_L7N_Y (io), B8 GCK3 (in), B16 IO_L20P (io), C5 IO_L0N_Y (io), C6 IO_VREF_L4N_YY (io), C7 IO_L5P_YY (io), C8 IO_L6P_Y (io), C15 IO_DOUT_BUSY_L19P_YY (io), C16 IO_L21P_YY (io), D5 IO_L1N_YY (io), D6 IO_L3N_Y (io), D7 IO_L6N_Y (io), D8 IO (io), D14 IO_DIN_D0_L19N_YY (io), D16 IO_L23N (io), E6 IO_L1P_YY (io), E7 IO (io), E8 VCCO (power), E13 IO_VREF_L20N (io), E14 IO_L21N_YY (io), E15 IO_L22N_Y (io), E16 IO_D1_L24N_Y (io), F8 VCCO (power), F12 IO_L23P (io), F13 IO_VREF_L22P_Y (io), F14 IO_VREF_L24P_Y (io), F15 IO_D2_L25P_YY (io), F16 IO_L26P (io), G12 IO_L26N (io), G13 IO_L25N_YY (io), G14 IO_L27N_YY (io), G15 IO_L27P_YY (io), G16 IO_D3_L28N_Y (io), H1 IO_L71P_Y (io), H11 VCCO (power), H12 VCCO (power), H13 IO_VREF_L28P_Y (io), H14 IO_L30P_YY (io), H15 IO_L29N (io), H16 IO_L30N_YY (io), J1 IO_L70P_Y (io), J2 IO (io), J3 IO_VREF_L70N_Y (io), J4 IO_L71N_Y (io), J5 VCCO (power), J6 VCCO (power), J13 IO_L28P (io), K1 IO_L68P (io), K2 IO_L69N_YY (io), K3 IO_L68N (io), K4 IO_L66P_Y (io), K5 IO_L69P_YY (io), L1 IO_L67P_YY (io), L2 IO_L67N_YY (io), L3 IO_L64P_Y (io), L4 IO_L65P_YY (io), L5 IO_L63N_YY (io), L9 VCCO (power), M1 IO_VREF_L66N_Y (io), M2 IO_L65N_YY (io), M3 IO_L61N_YY (io), M4 IO_L62N (io), M9 VCCO (power), M10 IO_L49N_Y (io), M11 IO_L47N_YY (io), N1 IO_VREF_L64N_Y (io), N2 IO_VREF_L62P (io), N8 GCK0 (in), N9 IO_LVDS_DLL_L52P (io), N10 IO_L51P_Y (io), N11 IO_L46N_Y (io), N12 IO_L44P_YY (io), P1 IO_L63P_YY (io), P9 IO_VREF_L50P_Y (io), P10 IO (io), P11 IO_L45N_YY (io), P12 IO_L43P_Y (io), P13 IO_L42N_YY (io), R1 IO_L61P_YY (io), R9 IO_L51N_Y (io), R10 IO_L49P_Y (io), R11 IO_L48P_YY (io), R12 IO_L46P_Y (io), R13 IO_VREF_L43N_Y (io), T9 IO_L50N_Y (io), T10 IO_L48N_YY (io), T11 IO_VREF_L47P_YY (io), T12 IO_VREF_L45P_YY (io), T13 IO_L44N_YY (io), T14 IO_L42P_YY (io)
part C pins: A1 GND (power), A15 TDI (in), A16 GND (power), B2 GND (power), B14 TDO (out), B15 GND (power), C3 VCCINT (power), C4 TCK (in), C14 VCCINT (power), D3 TMS (in), D4 VCCINT (power), D13 VCCINT (power), D15 CCLK (io), E5 VCCINT (power), E12 VCCINT (power), F6 GND (power), F7 GND (power), F10 GND (power), F11 GND (power), G6 GND (power), G7 GND (power), G8 GND (power), G9 GND (power), G10 GND (power), G11 GND (power), H7 GND (power), H8 GND (power), H9 GND (power), H10 GND (power), J7 GND (power), J8 GND (power), J9 GND (power), J10 GND (power), K6 GND (power), K7 GND (power), K8 GND (power), K9 GND (power), K10 GND (power), K11 GND (power), L6 GND (power), L7 GND (power), L10 GND (power), L11 GND (power), M5 VCCINT (power), M12 VCCINT (power), N3 M0 (in), N4 VCCINT (power), N13 VCCINT (power), P2 M1 (in), P3 VCCINT (power), P4 DXP, P14 VCCINT (power), P15 PROGRAM (in), R2 GND (power), R3 M2 (in), R4 DXN, R14 DONE (io), R15 GND (power), T1 GND (power), T16 GND (power)
part A text: BANK 1; BANK 7; BANK 3; BANK 5
part B text: BANK 0; BANK 6; BANK 2; BANK 4

## XCV200E-6FG256I
designator U?
Virtex-E 1.8V FPGA, 256-Ball FBGA, Industrial Grade; PackageDocument: ver1.1, Apr-2001; Note: Solder pads are defined by the copper, i.e. non-soldermask defined (NSMD); Published: 19-Sep-2001; LatestRevisionDate: 17-Jul-2002; LatestRevisionNote: Re-released for DXP Platform.; DatasheetDocument: Mar-2003; PackageReference: FG256; Publisher: Altium Limited; Code_JEDEC: MO-151-AAF-1; Code_IPC: PBGA 17X17 FE256
footprint FG256 (256-Ball Fine Pitch Ball Grid Array (FG256))
3D model XCV200E-FG256 (256-Ball Fine Pitch Ball Grid Array (FG256))
signal-integrity model XCV200E_FG256 (Virtex-E)
part A pins: A2 IO_L82P (io), A8 IO_LVDS_DLL_L8P (io), A9 IO_L9P_Y (io), A10 IO_L11N_Y (io), A11 IO_L12P_YY (io), A12 IO_L14N_Y (io), A13 IO_L15N_YY (io), A14 IO_VREF_L17N_Y (io), B1 IO_VREF_L82N (io), B9 IO_VREF_L10P_Y (io), B10 IO (io), B11 IO_L13N_YY (io), B12 IO_L16N_YY (io), B13 IO_CS_L18P_YY (io), C1 IO_VREF_L80P_Y (io), C2 IO (io), C9 GCK2 (in), C10 IO_L12N_YY (io), C11 IO_VREF_L15P_YY (io), C12 IO_L17P_Y (io), C13 IO_WRITE_L18N_YY (io), D1 IO_VREF_L78P_Y (io), D2 IO_L81N_YY (io), D9 IO_L9N_Y (io), D10 IO_L11P_Y (io), D11 IO_L14P_Y (io), D12 IO_L16P_YY (io), E1 IO_L78N_Y (io), E2 IO_L79P (io), E3 IO_L81P_YY (io), E4 IO_L79N (io), E9 VCCO (power), E10 IO_L10N_Y (io), E11 IO_VREF_L13P_YY (io), F1 IO_L76P (io), F2 IO_L77P_YY (io), F3 IO_L80N_Y (io), F4 IO_L76N (io), F5 IO_L75P_YY (io), F9 VCCO (power), G1 IO_L72N_YY (io), G2 IO_L75N_YY (io), G3 IO_L77N_YY (io), G4 IO_L74N_Y (io), G5 IO_L73N (io), H2 IO_L73P (io), H3 IO_VREF_L74P_Y (io), H4 IO_L72P_YY (io), H5 VCCO (power), H6 VCCO (power), J11 VCCO (power), J12 VCCO (power), J14 IO_L31N (io), J15 IO (io), J16 IO_D4_L32P_Y (io), K12 IO_L33P_YY (io), K13 IO_L34P (io), K14 IO_L35P_Y (io), K15 IO_L31P (io), K16 IO_VREF_L32N_Y (io), L8 VCCO (power), L12 IO_L37N (io), L13 IO_VREF_L36N_Y (io), L14 IO_VREF_L38N_Y (io), L15 IO_L33N_YY (io), L16 IO_L34N (io), M6 IO_L58P_YY (io), M7 IO_L55P_YY (io), M8 VCCO (power), M13 IO_VREF_L40P (io), M14 IO_L39P_YY (io), M15 IO_L38P_Y (io), M16 IO_D5_L35N_Y (io), N5 IO_L60N_Y (io), N6 IO_L57P_Y (io), N7 IO (io), N14 IO_D7_L41P_YY (io), N15 IO_INIT_L41N_YY (io), N16 IO_D6_L36P_Y (io), P5 IO_L59N_YY (io), P6 IO_L56P_YY (io), P7 IO_L54P_Y (io), P8 IO_VREF_L53N_Y (io), P16 IO_L37P (io), R5 IO_VREF_L56N_YY (io), R6 IO_L55N_YY (io), R7 IO_L53P_Y (io), R8 GCK1 (in), R16 IO_L39N_YY (io), T2 IO_VREF_L60P_Y (io), T3 IO_L59P_YY (io), T4 IO_VREF_L58N_YY (io), T5 IO_L57N_Y (io), T6 IO_L54N_Y (io), T7 IO (io), T8 IO_LVDS_DLL_L52N (io), T15 IO_L40N (io)
part B pins: A3 IO_VREF_L0P_Y (io), A4 IO_L2P_YY (io), A5 IO_L4P_YY (io), A6 IO_L7P_Y (io), A7 IO_LVDS_DLL_L8N (io), B3 IO (io), B4 IO_VREF_L2N_YY (io), B5 IO_L3P_Y (io), B6 IO_L5N_YY (io), B7 IO_VREF_L7N_Y (io), B8 GCK3 (in), B16 IO_L20P (io), C5 IO_L0N_Y (io), C6 IO_VREF_L4N_YY (io), C7 IO_L5P_YY (io), C8 IO_L6P_Y (io), C15 IO_DOUT_BUSY_L19P_YY (io), C16 IO_L21P_YY (io), D5 IO_L1N_YY (io), D6 IO_L3N_Y (io), D7 IO_L6N_Y (io), D8 IO (io), D14 IO_DIN_D0_L19N_YY (io), D16 IO_L23N (io), E6 IO_L1P_YY (io), E7 IO (io), E8 VCCO (power), E13 IO_VREF_L20N (io), E14 IO_L21N_YY (io), E15 IO_L22N_Y (io), E16 IO_D1_L24N_Y (io), F8 VCCO (power), F12 IO_L23P (io), F13 IO_VREF_L22P_Y (io), F14 IO_VREF_L24P_Y (io), F15 IO_D2_L25P_YY (io), F16 IO_L26P (io), G12 IO_L26N (io), G13 IO_L25N_YY (io), G14 IO_L27N_YY (io), G15 IO_L27P_YY (io), G16 IO_D3_L28N_Y (io), H1 IO_L71P_Y (io), H11 VCCO (power), H12 VCCO (power), H13 IO_VREF_L28P_Y (io), H14 IO_L30P_YY (io), H15 IO_L29N (io), H16 IO_L30N_YY (io), J1 IO_L70P_Y (io), J2 IO (io), J3 IO_VREF_L70N_Y (io), J4 IO_L71N_Y (io), J5 VCCO (power), J6 VCCO (power), J13 IO_L28P (io), K1 IO_L68P (io), K2 IO_L69N_YY (io), K3 IO_L68N (io), K4 IO_L66P_Y (io), K5 IO_L69P_YY (io), L1 IO_L67P_YY (io), L2 IO_L67N_YY (io), L3 IO_L64P_Y (io), L4 IO_L65P_YY (io), L5 IO_L63N_YY (io), L9 VCCO (power), M1 IO_VREF_L66N_Y (io), M2 IO_L65N_YY (io), M3 IO_L61N_YY (io), M4 IO_L62N (io), M9 VCCO (power), M10 IO_L49N_Y (io), M11 IO_L47N_YY (io), N1 IO_VREF_L64N_Y (io), N2 IO_VREF_L62P (io), N8 GCK0 (in), N9 IO_LVDS_DLL_L52P (io), N10 IO_L51P_Y (io), N11 IO_L46N_Y (io), N12 IO_L44P_YY (io), P1 IO_L63P_YY (io), P9 IO_VREF_L50P_Y (io), P10 IO (io), P11 IO_L45N_YY (io), P12 IO_L43P_Y (io), P13 IO_L42N_YY (io), R1 IO_L61P_YY (io), R9 IO_L51N_Y (io), R10 IO_L49P_Y (io), R11 IO_L48P_YY (io), R12 IO_L46P_Y (io), R13 IO_VREF_L43N_Y (io), T9 IO_L50N_Y (io), T10 IO_L48N_YY (io), T11 IO_VREF_L47P_YY (io), T12 IO_VREF_L45P_YY (io), T13 IO_L44N_YY (io), T14 IO_L42P_YY (io)
part C pins: A1 GND (power), A15 TDI (in), A16 GND (power), B2 GND (power), B14 TDO (out), B15 GND (power), C3 VCCINT (power), C4 TCK (in), C14 VCCINT (power), D3 TMS (in), D4 VCCINT (power), D13 VCCINT (power), D15 CCLK (io), E5 VCCINT (power), E12 VCCINT (power), F6 GND (power), F7 GND (power), F10 GND (power), F11 GND (power), G6 GND (power), G7 GND (power), G8 GND (power), G9 GND (power), G10 GND (power), G11 GND (power), H7 GND (power), H8 GND (power), H9 GND (power), H10 GND (power), J7 GND (power), J8 GND (power), J9 GND (power), J10 GND (power), K6 GND (power), K7 GND (power), K8 GND (power), K9 GND (power), K10 GND (power), K11 GND (power), L6 GND (power), L7 GND (power), L10 GND (power), L11 GND (power), M5 VCCINT (power), M12 VCCINT (power), N3 M0 (in), N4 VCCINT (power), N13 VCCINT (power), P2 M1 (in), P3 VCCINT (power), P4 DXP, P14 VCCINT (power), P15 PROGRAM (in), R2 GND (power), R3 M2 (in), R4 DXN, R14 DONE (io), R15 GND (power), T1 GND (power), T16 GND (power)
part A text: BANK 1; BANK 7; BANK 3; BANK 5
part B text: BANK 0; BANK 6; BANK 2; BANK 4

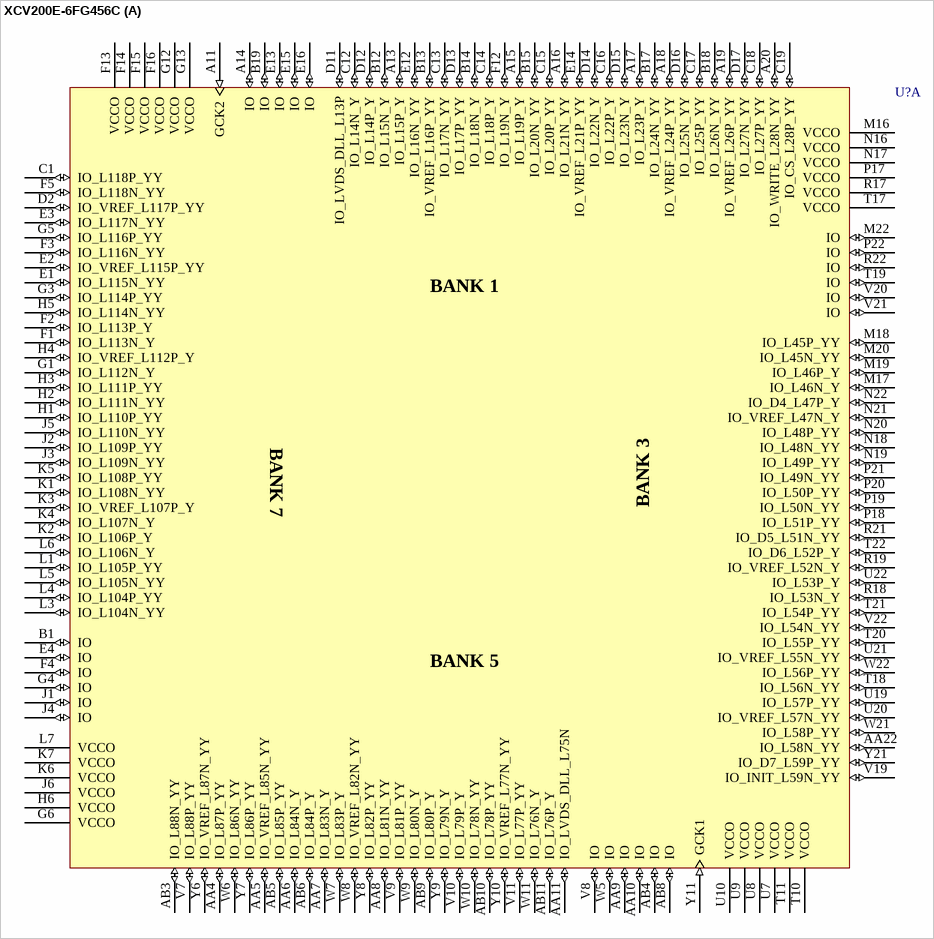
[diagram p39: symbol XCV200E-6FG456C]

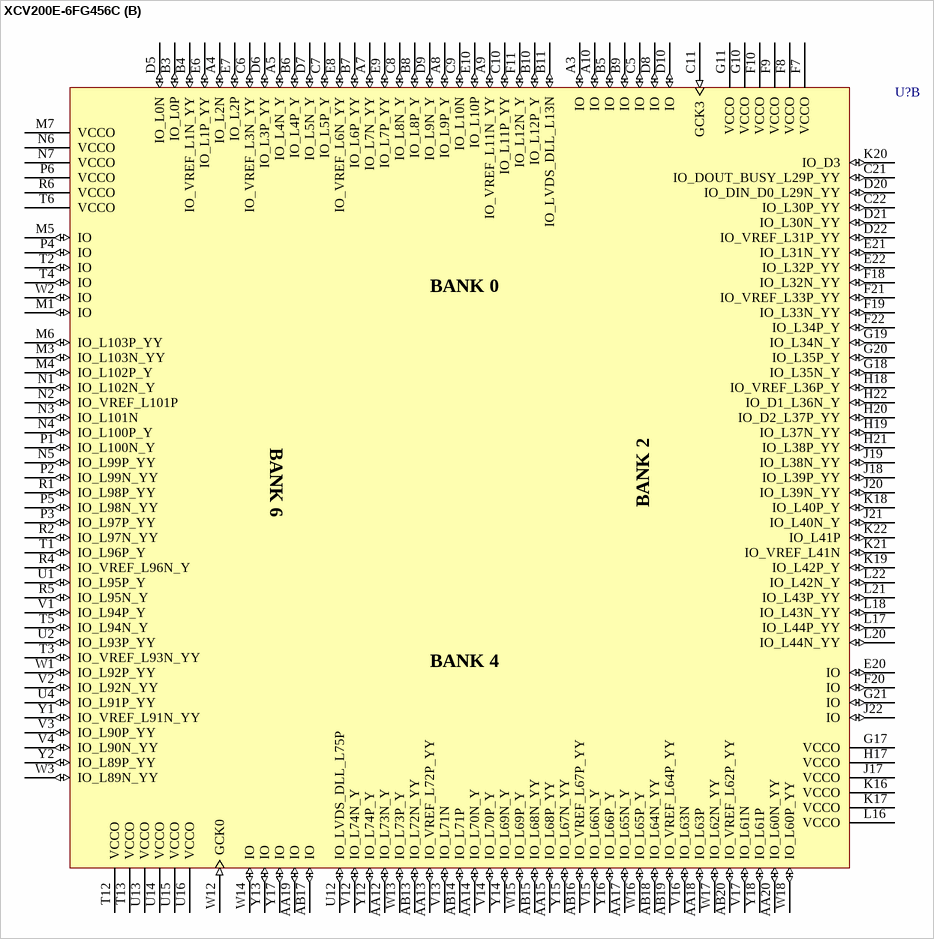
[diagram p40: symbol XCV200E-6FG456C]

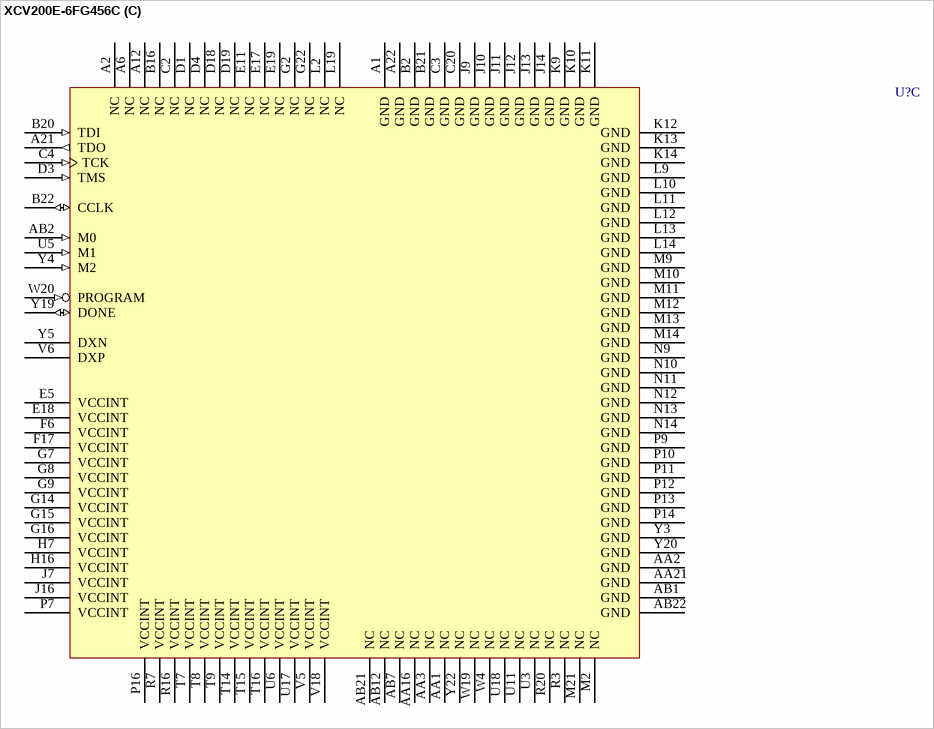
[diagram p41: symbol XCV200E-6FG456C]

## XCV200E-6FG456C
designator U?
Virtex-E 1.8V FPGA, 456-Ball FBGA, Commercial Grade; PackageDocument: ver1.1, Apr-2001; Note: Solder pads are defined by the copper, i.e. non-soldermask defined (NSMD); Published: 19-Sep-2001; LatestRevisionDate: 17-Jul-2002; LatestRevisionNote: Re-released for DXP Platform.; DatasheetDocument: Mar-2003; PackageReference: FG456; Publisher: Altium Limited; Code_JEDEC: MO-151-AAJ-1
footprint FG456 (456-Ball Fine Pitch Ball Grid Array (FG456))
3D model XCV200E-FG456 (456-Ball Fine Pitch Ball Grid Array (FG456))
signal-integrity model XCV200E_FG456 (Virtex-E)
part A pins: A11 GCK2 (in), A13 IO_L15P_Y (io), A14 IO (io), A15 IO_L19P_Y (io), A16 IO_L21N_YY (io), A17 IO_L23P_Y (io), A18 IO_VREF_L24P_YY (io), A19 IO_VREF_L26P_YY (io), A20 IO_WRITE_L28N_YY (io), AA4 IO_L87P_YY (io), AA5 IO_VREF_L85N_YY (io), AA6 IO_L84N_Y (io), AA7 IO_L83N_Y (io), AA8 IO_L81N_YY (io), AA9 IO (io), AA10 IO (io), AA11 IO_LVDS_DLL_L75N (io), AA22 IO_L58N_YY (io), AB3 IO_L88N_YY (io), AB4 IO (io), AB5 IO_L85P_YY (io), AB6 IO_L84P_Y (io), AB8 IO (io), AB9 IO_L80P_Y (io), AB10 IO_L78P_YY (io), AB11 IO_L76P_Y (io), B1 IO (io), B12 IO_L15N_Y (io), B13 IO_VREF_L16P_YY (io), B14 IO_L18N_Y (io), B15 IO_L20N_YY (io), B17 IO_L24N_YY (io), B18 IO_L26N_YY (io), B19 IO (io), C1 IO_L118P_YY (io), C12 IO_L14N_Y (io), C13 IO_L17N_YY (io), C14 IO_L18P_Y (io), C15 IO_L20P_YY (io), C16 IO_L22P_Y (io), C17 IO_L25P_YY (io), C18 IO_L27P_YY (io), C19 IO_CS_L28P_YY (io), D2 IO_VREF_L117P_YY (io), D11 IO_LVDS_DLL_L13P (io), D12 IO_L14P_Y (io), D13 IO_L17P_YY (io), D14 IO_L22N_Y (io), D15 IO_L23N_Y (io), D16 IO_L25N_YY (io), D17 IO_L27N_YY (io), E1 IO_L115N_YY (io), E2 IO_VREF_L115P_YY (io), E3 IO_L117N_YY (io), E4 IO (io), E12 IO_L16N_YY (io), E13 IO (io), E14 IO_VREF_L21P_YY (io), E15 IO (io), E16 IO (io), F1 IO_L113N_Y (io), F2 IO_L113P_Y (io), F3 IO_L116N_YY (io), F4 IO (io), F5 IO_L118N_YY (io), F12 IO_L19N_Y (io), F13 VCCO (power), F14 VCCO (power), F15 VCCO (power), F16 VCCO (power), G1 IO_L112N_Y (io), G3 IO_L114P_YY (io), G4 IO (io), G5 IO_L116P_YY (io), G6 VCCO (power), G12 VCCO (power), G13 VCCO (power), H1 IO_L110P_YY (io), H2 IO_L111N_YY (io), H3 IO_L111P_YY (io), H4 IO_VREF_L112P_Y (io), H5 IO_L114N_YY (io), H6 VCCO (power), J1 IO (io), J2 IO_L109P_YY (io), J3 IO_L109N_YY (io), J4 IO (io), J5 IO_L110N_YY (io), J6 VCCO (power), K1 IO_L108N_YY (io), K2 IO_L106P_Y (io), K3 IO_VREF_L107P_Y (io), K4 IO_L107N_Y (io), K5 IO_L108P_YY (io), K6 VCCO (power), K7 VCCO (power), L1 IO_L105P_YY (io), L3 IO_L104N_YY (io), L4 IO_L104P_YY (io), L5 IO_L105N_YY (io), L6 IO_L106N_Y (io), L7 VCCO (power), M16 VCCO (power), M17 IO_L46N_Y (io), M18 IO_L45P_YY (io), M19 IO_L46P_Y (io), M20 IO_L45N_YY (io), M22 IO (io), N16 VCCO (power), N17 VCCO (power), N18 IO_L48N_YY (io), N19 IO_L49P_YY (io), N20 IO_L48P_YY (io), N21 IO_VREF_L47N_Y (io), N22 IO_D4_L47P_Y (io), P17 VCCO (power), P18 IO_L51P_YY (io), P19 IO_L50N_YY (io), P20 IO_L50P_YY (io), P21 IO_L49N_YY (io), P22 IO (io), R17 VCCO (power), R18 IO_L53N_Y (io), R19 IO_VREF_L52N_Y (io), R21 IO_D5_L51N_YY (io), R22 IO (io), T10 VCCO (power), T11 VCCO (power), T17 VCCO (power), T18 IO_L56N_YY (io), T19 IO (io), T20 IO_L55P_YY (io), T21 IO_L54P_YY (io), T22 IO_D6_L52P_Y (io), U7 VCCO (power), U8 VCCO (power), U9 VCCO (power), U10 VCCO (power), U19 IO_L57P_YY (io), U20 IO_VREF_L57N_YY (io), U21 IO_VREF_L55N_YY (io), U22 IO_L53P_Y (io), V7 IO_L88P_YY (io), V8 IO (io), V9 IO_L81P_YY (io), V10 IO_L79P_Y (io), V11 IO_L77P_YY (io), V19 IO_INIT_L59N_YY (io), V20 IO (io), V21 IO (io), V22 IO_L54N_YY (io), W5 IO (io), W6 IO_L86N_YY (io), W7 IO_L83P_Y (io), W8 IO_VREF_L82N_YY (io), W9 IO_L80N_Y (io), W10 IO_L78N_YY (io), W11 IO_L76N_Y (io), W21 IO_L58P_YY (io), W22 IO_L56P_YY (io), Y6 IO_VREF_L87N_YY (io), Y7 IO_L86P_YY (io), Y8 IO_L82P_YY (io), Y9 IO_L79N_Y (io), Y10 IO_VREF_L77N_YY (io), Y11 GCK1 (in), Y21 IO_D7_L59P_YY (io)
part B pins: A3 IO (io), A4 IO_L2N (io), A5 IO_L4N_Y (io), A7 IO_L7N_YY (io), A8 IO_L9P_Y (io), A9 IO_VREF_L11N_YY (io), A10 IO (io), AA12 IO_L73N_Y (io), AA13 IO_VREF_L72P_YY (io), AA14 IO_L70N_Y (io), AA15 IO_L68P_YY (io), AA17 IO_L65N_Y (io), AA18 IO_L63P (io), AA19 IO (io), AA20 IO_L60N_YY (io), AB13 IO_L72N_YY (io), AB14 IO_L71P (io), AB15 IO_L68N_YY (io), AB16 IO_VREF_L67P_YY (io), AB17 IO (io), AB18 IO_L64N_YY (io), AB19 IO_VREF_L64P_YY (io), AB20 IO_VREF_L62P_YY (io), B3 IO_L0P (io), B4 IO_VREF_L1N_YY (io), B5 IO (io), B6 IO_L4P_Y (io), B7 IO_L6P_YY (io), B8 IO_L8P_Y (io), B9 IO (io), B10 IO_L12P_Y (io), B11 IO_LVDS_DLL_L13N (io), C5 IO (io), C6 IO_VREF_L3N_YY (io), C7 IO_L5P_Y (io), C8 IO_L8N_Y (io), C9 IO_L10N (io), C10 IO_L11P_YY (io), C11 GCK3 (in), C21 IO_DOUT_BUSY_L29P_YY (io), C22 IO_L30P_YY (io), D5 IO_L0N (io), D6 IO_L3P_YY (io), D7 IO_L5N_Y (io), D8 IO (io), D9 IO_L9N_Y (io), D10 IO (io), D20 IO_DIN_D0_L29N_YY (io), D21 IO_L30N_YY (io), D22 IO_VREF_L31P_YY (io), E6 IO_L1P_YY (io), E7 IO_L2P (io), E8 IO_VREF_L6N_YY (io), E9 IO_L7P_YY (io), E10 IO_L10P (io), E20 IO (io), E21 IO_L31N_YY (io), E22 IO_L32P_YY (io), F7 VCCO (power), F8 VCCO (power), F9 VCCO (power), F10 VCCO (power), F11 IO_L12N_Y (io), F18 IO_L32N_YY (io), F19 IO_L33N_YY (io), F20 IO (io), F21 IO_VREF_L33P_YY (io), F22 IO_L34P_Y (io), G10 VCCO (power), G11 VCCO (power), G17 VCCO (power), G18 IO_L35N_Y (io), G19 IO_L34N_Y (io), G20 IO_L35P_Y (io), G21 IO (io), H17 VCCO (power), H18 IO_VREF_L36P_Y (io), H19 IO_L37N_YY (io), H20 IO_D2_L37P_YY (io), H21 IO_L38P_YY (io), H22 IO_D1_L36N_Y (io), J17 VCCO (power), J18 IO_L39P_YY (io), J19 IO_L38N_YY (io), J20 IO_L39N_YY (io), J21 IO_L40N_Y (io), J22 IO (io), K16 VCCO (power), K17 VCCO (power), K18 IO_L40P_Y (io), K19 IO_L42P_Y (io), K20 IO_D3 (io), K21 IO_VREF_L41N (io), K22 IO_L41P (io), L16 VCCO (power), L17 IO_L44P_YY (io), L18 IO_L43N_YY (io), L20 IO_L44N_YY (io), L21 IO_L43P_YY (io), L22 IO_L42N_Y (io), M1 IO (io), M3 IO_L103N_YY (io), M4 IO_L102P_Y (io), M5 IO (io), M6 IO_L103P_YY (io), M7 VCCO (power), N1 IO_L102N_Y (io), N2 IO_VREF_L101P (io), N3 IO_L101N (io), N4 IO_L100P_Y (io), N5 IO_L99P_YY (io), N6 VCCO (power), N7 VCCO (power), P1 IO_L100N_Y (io), P2 IO_L99N_YY (io), P3 IO_L97P_YY (io), P4 IO (io), P5 IO_L98N_YY (io), P6 VCCO (power), R1 IO_L98P_YY (io), R2 IO_L97N_YY (io), R4 IO_VREF_L96N_Y (io), R5 IO_L95N_Y (io), R6 VCCO (power), T1 IO_L96P_Y (io), T2 IO (io), T3 IO_VREF_L93N_YY (io), T4 IO (io), T5 IO_L94N_Y (io), T6 VCCO (power), T12 VCCO (power), T13 VCCO (power), U1 IO_L95P_Y (io), U2 IO_L93P_YY (io), U4 IO_L91P_YY (io), U12 IO_LVDS_DLL_L75P (io), U13 VCCO (power), U14 VCCO (power), U15 VCCO (power), U16 VCCO (power), V1 IO_L94P_Y (io), V2 IO_L92N_YY (io), V3 IO_L90P_YY (io), V4 IO_L90N_YY (io), V12 IO_L74N_Y (io), V13 IO_L71N (io), V14 IO_L70P_Y (io), V15 IO_L66N_Y (io), V16 IO_L63N (io), V17 IO_L61N (io), W1 IO_L92P_YY (io), W2 IO (io), W3 IO_L89N_YY (io), W12 GCK0 (in), W13 IO_L73P_Y (io), W14 IO (io), W15 IO_L69P_Y (io), W16 IO_L65P_Y (io), W17 IO_L62N_YY (io), W18 IO_L60P_YY (io), Y1 IO_VREF_L91N_YY (io), Y2 IO_L89P_YY (io), Y12 IO_L74P_Y (io), Y13 IO (io), Y14 IO_L69N_Y (io), Y15 IO_L67N_YY (io), Y16 IO_L66P_Y (io), Y17 IO (io), Y18 IO_L61P (io)
part C pins: A1 GND (power), A2 NC, A6 NC, A12 NC, A21 TDO (out), A22 GND (power), AA1 NC, AA2 GND (power), AA3 NC, AA16 NC, AA21 GND (power), AB1 GND (power), AB2 M0 (in), AB7 NC, AB12 NC, AB21 NC, AB22 GND (power), B2 GND (power), B16 NC, B20 TDI (in), B21 GND (power), B22 CCLK (io), C2 NC, C3 GND (power), C4 TCK (in), C20 GND (power), D1 NC, D3 TMS (in), D4 NC, D18 NC, D19 NC, E5 VCCINT (power), E11 NC, E17 NC, E18 VCCINT (power), E19 NC, F6 VCCINT (power), F17 VCCINT (power), G2 NC, G7 VCCINT (power), G8 VCCINT (power), G9 VCCINT (power), G14 VCCINT (power), G15 VCCINT (power), G16 VCCINT (power), G22 NC, H7 VCCINT (power), H16 VCCINT (power), J7 VCCINT (power), J9 GND (power), J10 GND (power), J11 GND (power), J12 GND (power), J13 GND (power), J14 GND (power), J16 VCCINT (power), K9 GND (power), K10 GND (power), K11 GND (power), K12 GND (power), K13 GND (power), K14 GND (power), L2 NC, L9 GND (power), L10 GND (power), L11 GND (power), L12 GND (power), L13 GND (power), L14 GND (power), L19 NC, M2 NC, M9 GND (power), M10 GND (power), M11 GND (power), M12 GND (power), M13 GND (power), M14 GND (power), M21 NC, N9 GND (power), N10 GND (power), N11 GND (power), N12 GND (power), N13 GND (power), N14 GND (power), P7 VCCINT (power), P9 GND (power), P10 GND (power), P11 GND (power), P12 GND (power), P13 GND (power), P14 GND (power), P16 VCCINT (power), R3 NC, R7 VCCINT (power), R16 VCCINT (power), R20 NC, T7 VCCINT (power), T8 VCCINT (power), T9 VCCINT (power), T14 VCCINT (power), T15 VCCINT (power), T16 VCCINT (power), U3 NC, U5 M1 (in), U6 VCCINT (power), U11 NC, U17 VCCINT (power), U18 NC, V5 VCCINT (power), V6 DXP, V18 VCCINT (power), W4 NC, W19 NC, W20 PROGRAM (in), Y3 GND (power), Y4 M2 (in), Y5 DXN, Y19 DONE (io), Y20 GND (power), Y22 NC
part A text: BANK 1; BANK 7; BANK 3; BANK 5
part B text: BANK 0; BANK 6; BANK 2; BANK 4

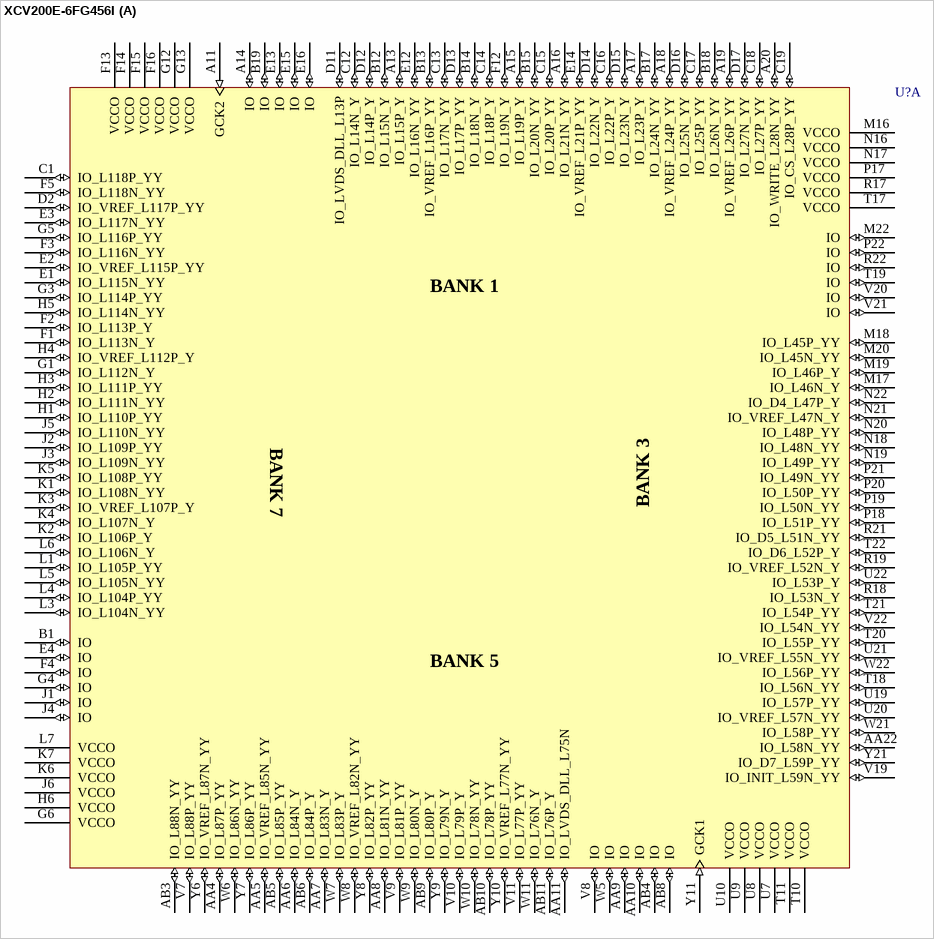
[diagram p42: symbol XCV200E-6FG456I]

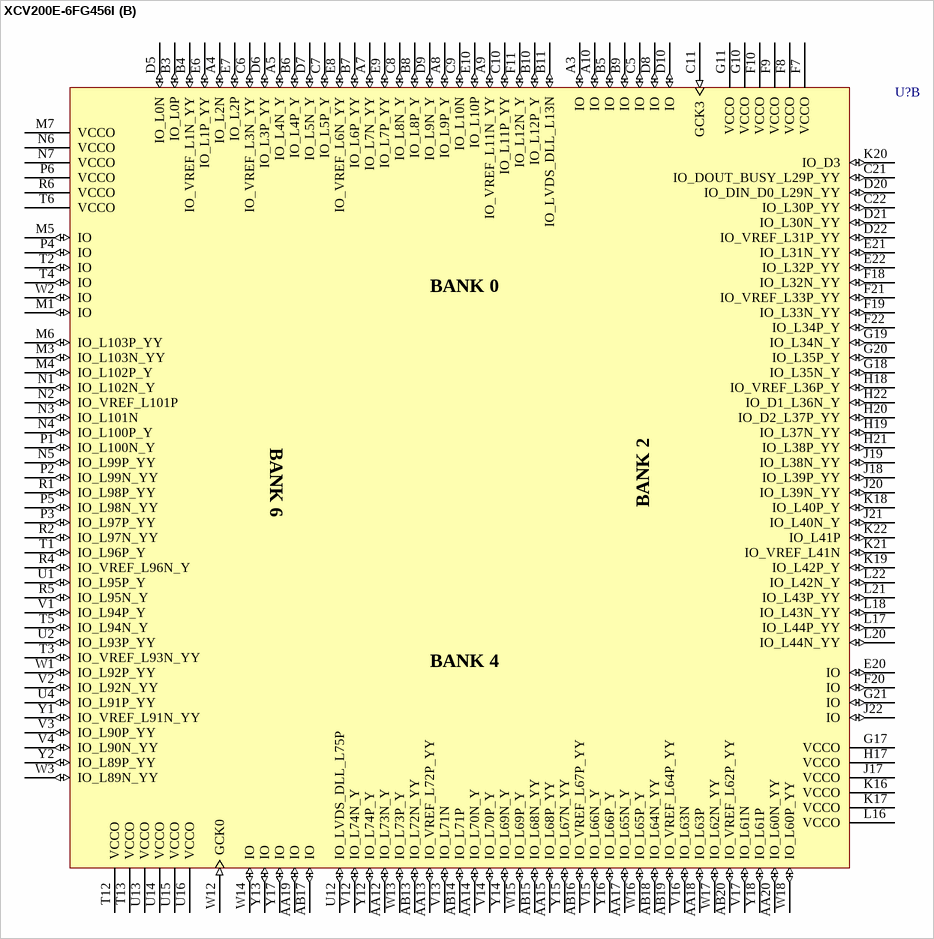
[diagram p43: symbol XCV200E-6FG456I]

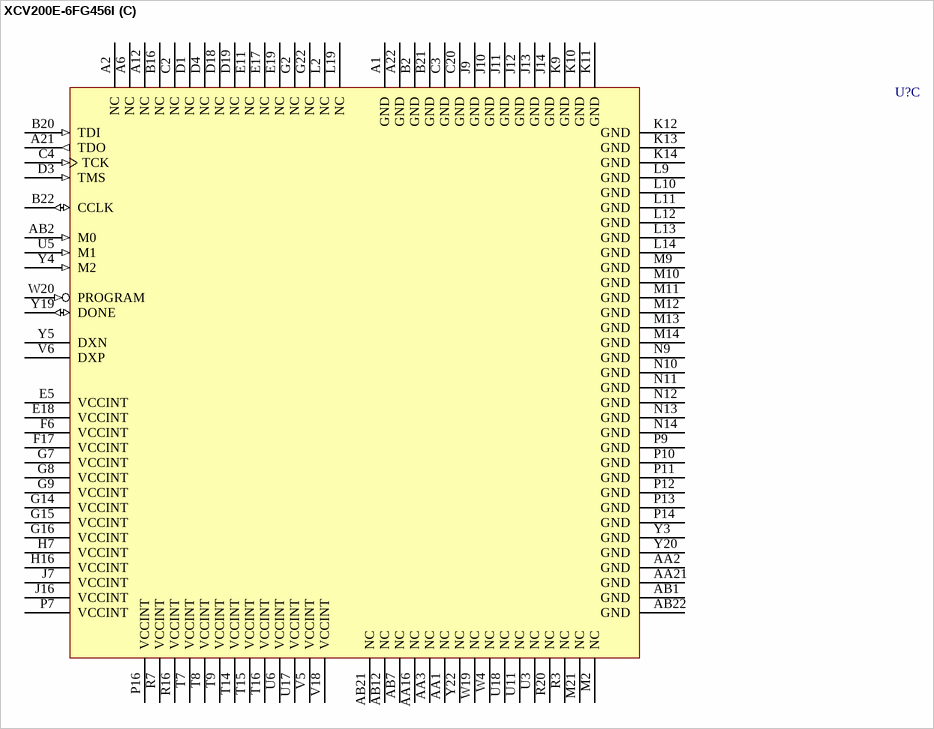
[diagram p44: symbol XCV200E-6FG456I]